# Altium schematic symbol library MyComponents_v2.5.SchLib: 259 symbols (part 1 of 3)
Pins are listed as number, name and electrical type; pins without a type are passive.

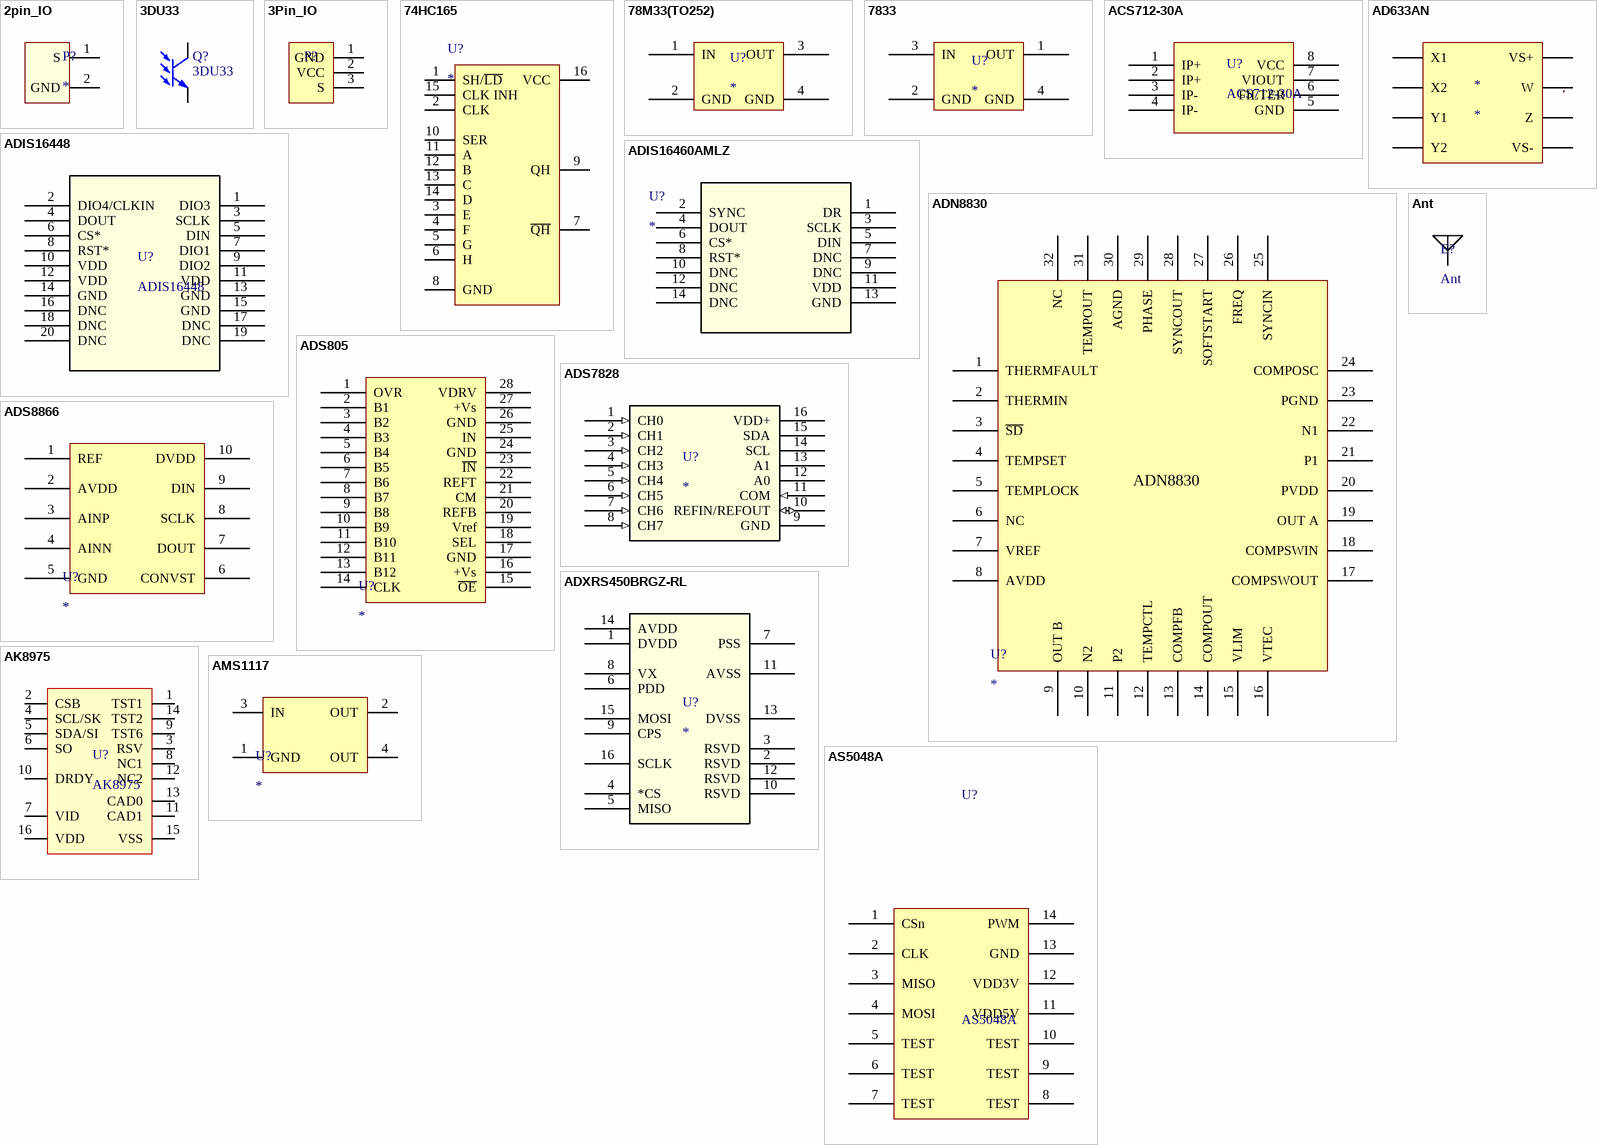
[diagram p0: symbols 2pin_IO to AS5048A]

## 2pin_IO
designator P?
footprint HY2.00MM 2X1_立式 (额定电流2A，额定电压250V)
footprint HY2.00MM 2X1 SMT
pins: 1 S, 2 GND

## 3DU33
designator Q?
光电三极管
footprint 3DU33
footprint LED-3mm
footprint 5mm_Receiver
pins: 1 Collector, 2 Emiter

## 3Pin_IO
designator P?  (value not drawn)
3pin input/output. V+S+G
footprint HY2.00MM 3x1立式 (额定电流2A)
footprint HY2.00MM 3x1 (额定电流2A)
footprint HY2.00MM 3X1 SMT
pins: 1 GND, 2 VCC, 3 S

## 74HC165
designator U?
8-BIT PARALLEL-LOAD SHIFT REGISTERS
pins: 1 SH/~{LD}, 2 CLK, 3 E, 4 F, 5 G, 6 H, 7 ~{QH}, 8 GND, 9 QH, 10 SER, 11 A, 12 B, 13 C, 14 D, 15 CLK INH, 16 VCC

## 78M33(TO252)
designator U?
pins: 1 IN, 2 GND, 3 OUT, 4 GND

## 7833
designator U?
pins: 1 OUT, 2 GND, 3 IN, 4 GND

## ACS712-30A
designator U?
footprint SOIC-8
pins: 1 IP+, 2 IP+, 3 IP-, 4 IP-, 5 GND, 6 FILTER, 7 VIOUT, 8 VCC

## AD633AN
designator *
pins: 1 X1, 2 X2, 3 Y1, 4 Y2, 5 VS-, 6 Z, 7 W, 8 VS+

## ADIS16448
designator U?
footprint Model Name (Footprint not found)
footprint ML-20
pins: 1 DIO3, 2 DIO4/CLKIN, 3 SCLK, 4 DOUT, 5 DIN, 6 CS*, 7 DIO1, 8 RST*, 9 DIO2, 10 VDD, 11 VDD, 12 VDD, 13 GND, 14 GND, 15 GND, 16 DNC, 17 DNC, 18 DNC, 19 DNC, 20 DNC

## ADIS16460AMLZ
designator U?
Imported; Value: Value; Type: Type; RefDes: RefDes
footprint ML-14-6
pins: 1 DR, 2 SYNC, 3 SCLK, 4 DOUT, 5 DIN, 6 CS*, 7 DNC, 8 RST*, 9 DNC, 10 DNC, 11 VDD, 12 DNC, 13 GND, 14 DNC

## ADN8830
designator U?
footprint QFN32_Thermal
pins: 1 THERMFAULT, 2 THERMIN, 3 ~{SD}, 4 TEMPSET, 5 TEMPLOCK, 6 NC, 7 VREF, 8 AVDD, 9 OUT B, 10 N2, 11 P2, 12 TEMPCTL, 13 COMPFB, 14 COMPOUT, 15 VLIM, 16 VTEC, 17 COMPSWOUT, 18 COMPSWIN, 19 OUT A, 20 PVDD, 21 P1, 22 N1, 23 PGND, 24 COMPOSC, 25 SYNCIN, 26 FREQ, 27 SOFTSTART, 28 SYNCOUT, 29 PHASE, 30 AGND, 31 TEMPOUT, 32 NC, 33 hidden to GND

## ADS805
designator U?
footprint ADS805
pins: 1 OVR, 2 B1, 3 B2, 4 B3, 5 B4, 6 B5, 7 B6, 8 B7, 9 B8, 10 B9, 11 B10, 12 B11, 13 B12, 14 CLK, 15 ~{OE}, 16 +Vs, 17 GND, 18 SEL, 19 Vref, 20 REFB, 21 CM, 22 REFT, 23 ~{IN}, 24 GND, 25 IN, 26 GND, 27 +Vs, 28 VDRV

## ADS7828
designator U?
Imported; Manufacturer: Texas Instruments; GENERIC_PART_NUMBER: ADS7828; INDUSTRY_STD_PKG_TYPE: TSSOP; FAMILY_NAME: PRECISION ADC (<=10MSPS); PIN_COUNT: 16; PACKAGE_DESIGNATOR: PW; Datasheet_URL: http://www.ti.com/lit/gpn/ADS7828; Value: Value; Type: Type; RefDes: RefDes
footprint TSSOP-16
pins: 1 CH0 (in), 2 CH1 (in), 3 CH2 (in), 4 CH3 (in), 5 CH4 (in), 6 CH5 (in), 7 CH6 (in), 8 CH7 (in), 9 GND (power), 10 REFIN/REFOUT (io), 11 COM (in), 12 A0, 13 A1, 14 SCL, 15 SDA, 16 VDD+ (power)

## ADS8866
designator U?
footprint DGS10_NOTHERMAL (TSSOP, 10-Leads, Body 3.00x3.00mm, Pitch 0.50mm, IPC Medium Density)
pins: 1 REF, 2 AVDD, 3 AINP, 4 AINN, 5 GND, 6 CONVST, 7 DOUT, 8 SCLK, 9 DIN, 10 DVDD

## ADXRS450BRGZ-RL
designator U?
Imported; Value: Value; Type: Type; RefDes: RefDes
footprint RG_16_1
pins: 1 DVDD, 2 RSVD, 3 RSVD, 4 *CS, 5 MISO, 6 PDD, 7 PSS, 8 VX, 9 CPS, 10 RSVD, 11 AVSS, 12 RSVD, 13 DVSS, 14 AVDD, 15 MOSI, 16 SCLK

## AK8975
designator U?
footprint QFN16 4x4
pins: 1 TST1, 2 CSB, 3 RSV, 4 SCL/SK, 5 SDA/SI, 6 SO, 7 VID, 8 NC1, 9 TST6, 10 DRDY, 11 CAD1, 12 NC2, 13 CAD0, 14 TST2, 15 VSS, 16 VDD

## AMS1117
designator U?
footprint SOT223_4 (SOT223, 4-Leads, Body 6.50x7.00mm (avg), Pitch 2.29mm, IPC Medium Density)
pins: 1 GND, 2 OUT, 3 IN, 4 OUT

## Ant
designator E?
天线
footprint 2.4GANTS9
pins: 1

## AS5048A
designator U?
footprint PW14
pins: 1 CSn, 2 CLK, 3 MISO, 4 MOSI, 5 TEST, 6 TEST, 7 TEST, 8 TEST, 9 TEST, 10 TEST, 11 VDD5V, 12 VDD3V, 13 GND, 14 PWM

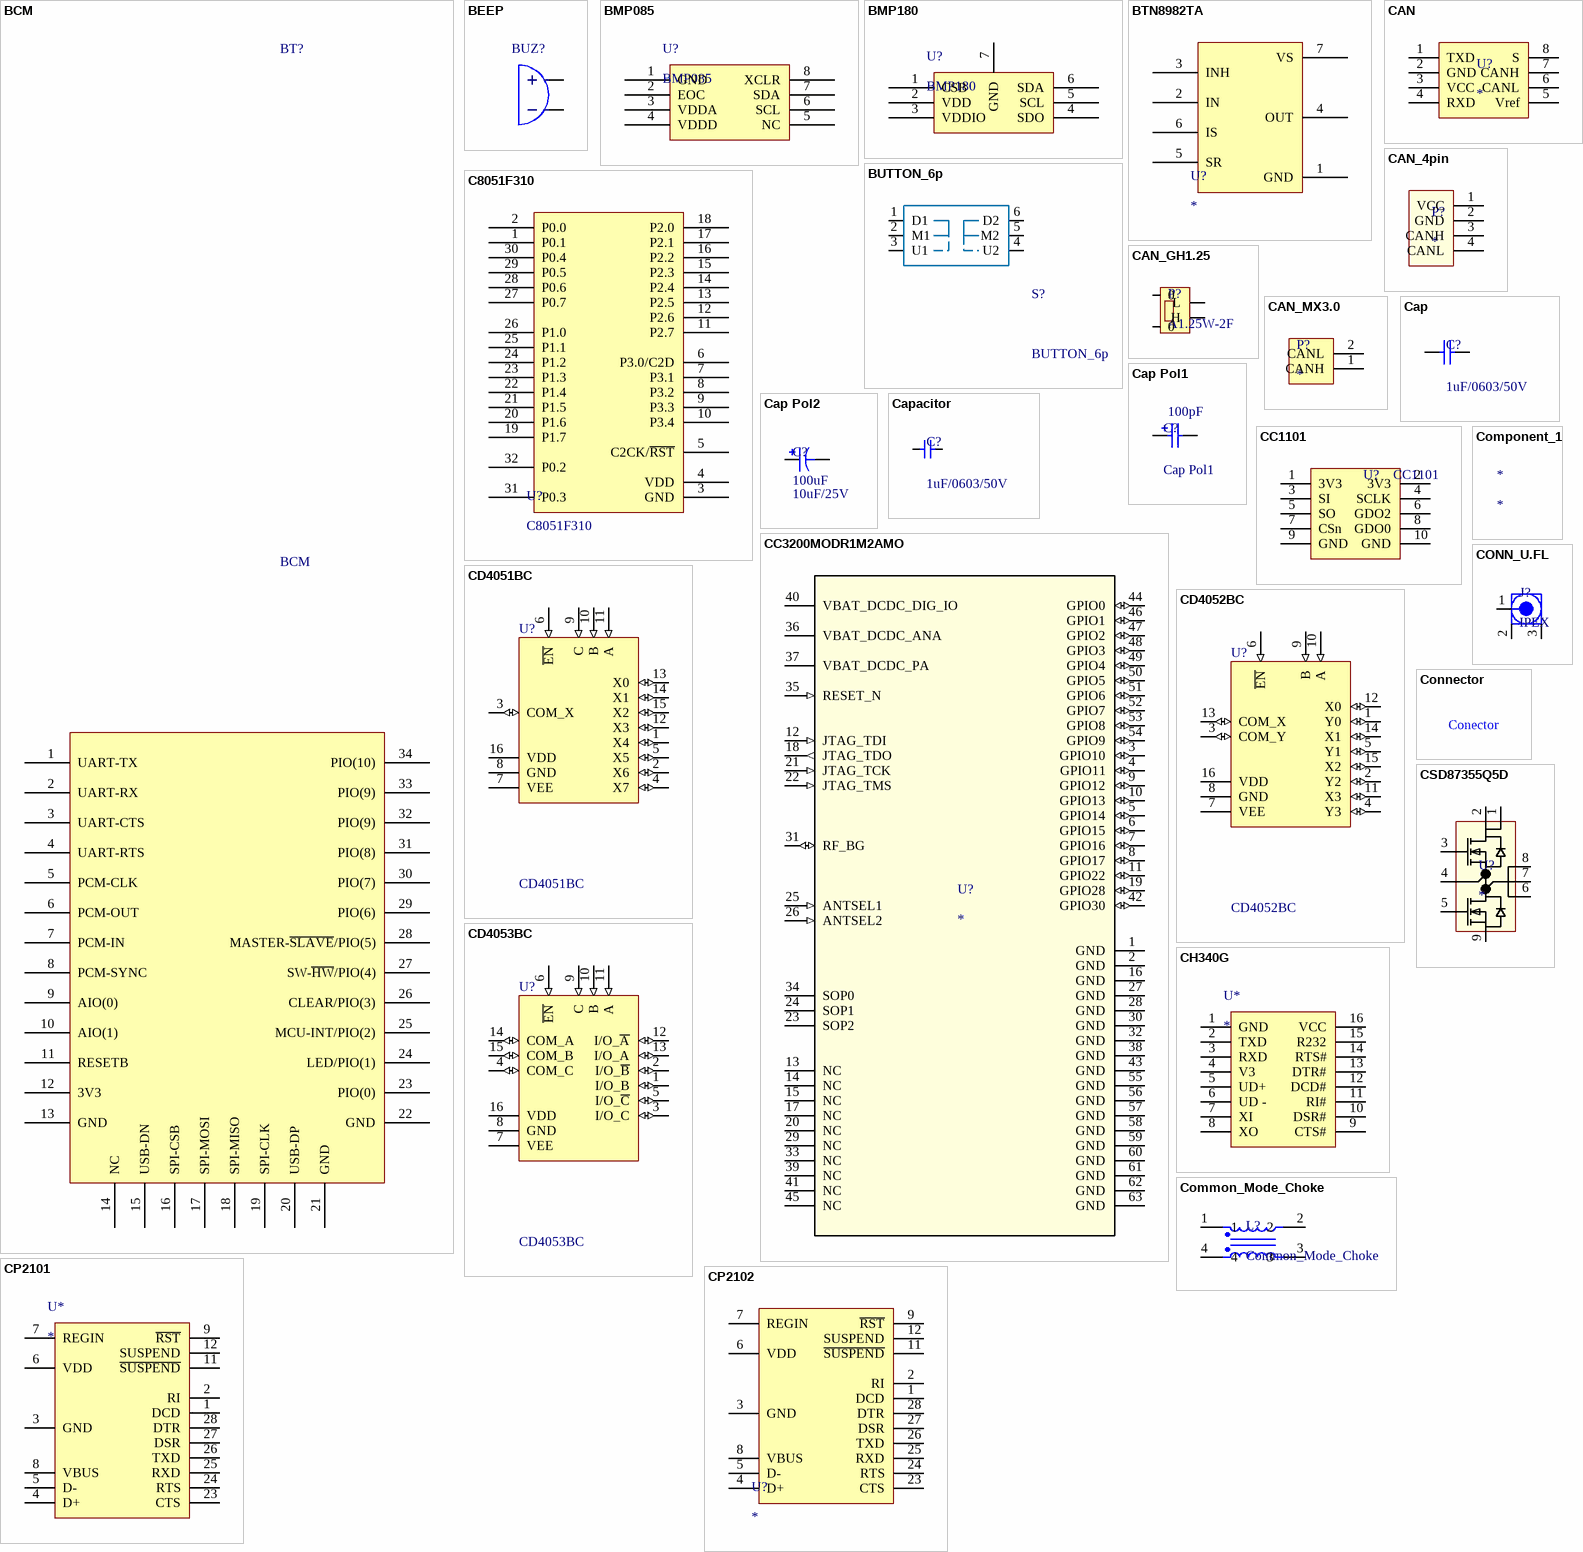
[diagram p1: symbols BCM to CSD87355Q5D]

## BCM
designator BT?
蓝牙2.0 主从模块
footprint Bluetooth_fix
pins: 1 UART-TX, 2 UART-RX, 3 UART-CTS, 4 UART-RTS, 5 PCM-CLK, 6 PCM-OUT, 7 PCM-IN, 8 PCM-SYNC, 9 AIO(0), 10 AIO(1), 11 RESETB, 12 3V3, 13 GND, 14 NC, 15 USB-DN, 16 SPI-CSB, 17 SPI-MOSI, 18 SPI-MISO, 19 SPI-CLK, 20 USB-DP, 21 GND, 22 GND, 23 PIO(0), 24 LED/PIO(1), 25 MCU-INT/PIO(2), 26 CLEAR/PIO(3), 27 SW-~{HW}/PIO(4), 28 MASTER-~{SLAVE}/PIO(5), 29 PIO(6), 30 PIO(7), 31 PIO(8), 32 PIO(9), 33 PIO(9), 34 PIO(10)

## BEEP
designator BUZ?, comment BUZZER  (value not drawn)
footprint BEEP-3.3V (Φ9X5.5mm  3.3V)
footprint BEEP-5V (Φ12X9.5mm  5V)
footprint MLT-8530
footprint MLT-5030 (MLT5020/MLT5025/MLT5030)
pins: 1, 2

## BMP085
designator U?
数字气压计
footprint BMP085
pins: 1 GND, 2 EOC, 3 VDDA, 4 VDDD, 5 NC, 6 SCL, 7 SDA, 8 XCLR

## BMP180
designator U?
数字气压计
footprint BMP180
pins: 1 CSB, 2 VDD, 3 VDDIO, 4 SDO, 5 SCL, 6 SDA, 7 GND

## BTN8982TA
designator U?
footprint TO263_7P
pins: 1 GND, 2 IN, 3 INH, 4 OUT, 5 SR, 6 IS, 7 VS, 8 OUT hidden

## BUTTON_6p
designator S?
footprint BTN8.5*8.5 (8.5MM*8.5MM)
pins: 1 D1, 2 M1, 3 U1, 4 U2, 5 M2, 6 D2

## C8051F310
designator U?
footprint LQFP_32 (LQFP, 32-Leads, Body 9.0x9.0mm (max), Pitch 0.80mm, IPC Medium Density)
pins: 1 P0.1, 2 P0.0, 3 GND, 4 VDD, 5 C2CK/~{RST}, 6 P3.0/C2D, 7 P3.1, 8 P3.2, 9 P3.3, 10 P3.4, 11 P2.7, 12 P2.6, 13 P2.5, 14 P2.4, 15 P2.3, 16 P2.2, 17 P2.1, 18 P2.0, 19 P1.7, 20 P1.6, 21 P1.5, 22 P1.4, 23 P1.3, 24 P1.2, 25 P1.1, 26 P1.0, 27 P0.7, 28 P0.6, 29 P0.5, 30 P0.4, 31 P0.3, 32 P0.2

## CAN
designator U?
footprint SOIC8 (SOIC, 8-Leads, Body 4.90x3.90mm, Pitch 1.27mm, IPC Medium Density)
footprint SOT-23-8
pins: 1 TXD, 2 GND, 3 VCC, 4 RXD, 5 Vref, 6 CANL, 7 CANH, 8 S

## CAN_4pin
designator P?
CAN 4pin，带5V电源，HY2.0-4A
footprint HY2.00MM 4X1立式
footprint HY2.00MM 4X1 SMT
footprint GH1.25-4P-卧贴
pins: 1 VCC, 2 GND, 3 CANH, 4 CANL

## CAN_GH1.25
designator P?, comment A1.25W-2F
footprint GH1.25-2p-卧贴
footprint GH1.25-2P-立贴
pins: 0, 0, 1 L, 2 H

## CAN_MX3.0
designator P?
footprint PCON2_3.81-2Z
footprint MX3.0MM 2X1AW
pins: 1 CANH, 2 CANL

## Cap
designator C?, comment 1uF/0603/50V
Capacitor; Value: 100pF; Published: 8-Jun-2000; LatestRevisionDate: 17-Jul-2002; LatestRevisionNote: Re-released for DXP Platform.; PackageReference: RAD-0.3; Publisher: Altium Limited; PackageDescription: Radial Cap, Thru-Hole; 2 Leads; 0.3 in Pin Spacing
simulation model CAP (Capacitor)
signal-integrity model Cap
footprint 0603C
footprint 1210C
footprint 0805c
footprint 1206C
footprint 0402C
pins: 1, 2

## Cap Pol1
designator C?  value 100pF
Polarized Capacitor (Radial); Published: 8-Jun-2000; LatestRevisionDate: 17-Jul-2002; LatestRevisionNote: Re-released for DXP Platform.; PackageReference: RB7.6-15; Publisher: Altium Limited; PackageDescription: Polarized Capacitor (Radial); 2 Leads
footprint RB7.6-15 (Footprint not found)
simulation model CAP (Capacitor)
signal-integrity model Cap Pol
pins: 1, 2
1 alternate drawing of the same symbol

## Cap Pol2
designator C?, comment 10uF/25V  value 100uF
Polarized Capacitor (Axial); Published: 8-Jun-2000; LatestRevisionDate: 17-Jul-2002; LatestRevisionNote: Re-released for DXP Platform.; PackageReference: POLAR0.8; Publisher: Altium Limited; PackageDescription: Polarized Capacitor; 2 Leads
simulation model CAP (Capacitor)
signal-integrity model Cap Pol
footprint RB-6.3mm (外径6.3mm 引脚间距2.5mm 孔径0.5mm 100u/25V)
footprint RB-5mm (外径5mm 引脚间距2mm 孔径0.5mm)
footprint RB-10mm (外径10mm 引脚间距5mm 孔径0.6mm)
footprint RB-10MM-W
footprint SMD-EC-F8 (铝电解电容)
footprint RB-8MM (外径8mm 引脚间距4mm 脚径0.6mm)
pins: 1, 2
1 alternate drawing of the same symbol

## Capacitor
designator C?, comment 1uF/0603/50V
Capacitor; Value: 100pF; Published: 8-Jun-2000; LatestRevisionDate: 17-Jul-2002; LatestRevisionNote: Re-released for DXP Platform.; PackageReference: RAD-0.3; Publisher: Altium Limited; PackageDescription: Radial Cap, Thru-Hole; 2 Leads; 0.3 in Pin Spacing
simulation model CAP (Capacitor)
signal-integrity model Cap
footprint 0603C
footprint 1210C
footprint 0402
footprint 0805c
footprint 1206C
pins: 1, 2

## CC1101
designator U?
footprint CC1101
pins: 1 3V3, 2 3V3, 3 SI, 4 SCLK, 5 SO, 6 GDO2, 7 CSn, 8 GDO0, 9 GND, 10 GND

## CC3200MODR1M2AMO
designator U?
Imported; PartNumber: CC3200MODR1M2AMOBR; Manufacturer: Texas Instruments; RefDes: RefDes; TYPE: TYPE; Value: Value
footprint MOB0063A
pins: 1 GND (power), 2 GND (power), 3 GPIO10 (io), 4 GPIO11 (io), 5 GPIO14 (io), 6 GPIO15 (io), 7 GPIO16 (io), 8 GPIO17 (io), 9 GPIO12 (io), 10 GPIO13 (io), 11 GPIO22 (io), 12 JTAG_TDI (in), 13 NC, 14 NC, 15 NC, 16 GND (power), 17 NC, 18 JTAG_TDO (out), 19 GPIO28 (io), 20 NC, 21 JTAG_TCK (in), 22 JTAG_TMS (in), 23 SOP2, 24 SOP1, 25 ANTSEL1 (in), 26 ANTSEL2 (in), 27 GND (power), 28 GND (power), 29 NC, 30 GND (power), 31 RF_BG (io), 32 GND (power), 33 NC, 34 SOP0, 35 RESET_N (in), 36 VBAT_DCDC_ANA (power), 37 VBAT_DCDC_PA (power), 38 GND (power), 39 NC, 40 VBAT_DCDC_DIG_IO (power), 41 NC, 42 GPIO30 (io), 43 GND (power), 44 GPIO0 (io), 45 NC, 46 GPIO1 (io), 47 GPIO2 (io), 48 GPIO3 (io), 49 GPIO4 (io), 50 GPIO5 (io), 51 GPIO6 (io), 52 GPIO7 (io), 53 GPIO8 (io), 54 GPIO9 (io), 55 GND (power), 56 GND (power), 57 GND (power), 58 GND (power), 59 GND (power), 60 GND (power), 61 GND (power), 62 GND (power), 63 GND (power)

## CD4051BC
designator U?
8-Channel Analog Multiplexer/Demultiplexer; Published: 15-Apr-2002; LatestRevisionDate: 06-Jun-2005; LatestRevisionNote: Stylized 3D Model Added.; DatasheetVersion: Oct-1989; PackageVersion: 2000; PackageReference: N16E; Publisher: Altium Limited; PackageDescription: DIP; 16 Leads; Row Spacing 7.62 mm; Pitch 2.54 mm; ComponentLink1Description: Manufacturer Link; ComponentLink1URL: http://www.national.com/; ComponentLink2Description: Datasheet; ComponentLink2URL: http://www.national.com/ds.cgi/CD/CD4051BC.pdf; ComponentLink3Description: URL Link1; ComponentLink3URL: http://www.national.com/pf/CD/CD4051BC.html
pins: 1 X4 (io), 2 X6 (io), 3 COM_X (io), 4 X7 (io), 5 X5 (io), 6 ~{EN} (in), 7 VEE (power), 8 GND (power), 9 C (in), 10 B (in), 11 A (in), 12 X3 (io), 13 X0 (io), 14 X1 (io), 15 X2 (io), 16 VDD (power)

## CD4052BC
designator U?
8-Channel Analog Multiplexer/Demultiplexer; Published: 15-Apr-2002; LatestRevisionDate: 06-Jun-2005; LatestRevisionNote: Stylized 3D Model Added.; DatasheetVersion: Oct-1989; PackageVersion: 2000; PackageReference: N16E; Publisher: Altium Limited; PackageDescription: DIP; 16 Leads; Row Spacing 7.62 mm; Pitch 2.54 mm; ComponentLink1Description: Manufacturer Link; ComponentLink1URL: http://www.national.com/; ComponentLink2Description: Datasheet; ComponentLink2URL: http://www.national.com/ds.cgi/CD/CD4051BC.pdf; ComponentLink3Description: URL Link1; ComponentLink3URL: http://www.national.com/pf/CD/CD4051BC.html
pins: 1 Y0 (io), 2 Y2 (io), 3 COM_Y (io), 4 Y3 (io), 5 Y1 (io), 6 ~{EN} (in), 7 VEE (power), 8 GND (power), 9 B (in), 10 A (in), 11 X3 (io), 12 X0 (io), 13 COM_X (io), 14 X1 (io), 15 X2 (io), 16 VDD (power)

## CD4053BC
designator U?
8-Channel Analog Multiplexer/Demultiplexer; Published: 15-Apr-2002; LatestRevisionDate: 06-Jun-2005; LatestRevisionNote: Stylized 3D Model Added.; DatasheetVersion: Oct-1989; PackageVersion: 2000; PackageReference: N16E; Publisher: Altium Limited; PackageDescription: DIP; 16 Leads; Row Spacing 7.62 mm; Pitch 2.54 mm; ComponentLink1Description: Manufacturer Link; ComponentLink1URL: http://www.national.com/; ComponentLink2Description: Datasheet; ComponentLink2URL: http://www.national.com/ds.cgi/CD/CD4051BC.pdf; ComponentLink3Description: URL Link1; ComponentLink3URL: http://www.national.com/pf/CD/CD4051BC.html
pins: 1 I/O_B (io), 2 I/O_~{B} (io), 3 I/O_C (io), 4 COM_C (io), 5 I/O_~{C} (io), 6 ~{EN} (in), 7 VEE (power), 8 GND (power), 9 C (in), 10 B (in), 11 A (in), 12 I/O_~{A} (io), 13 I/O_A (io), 14 COM_A (io), 15 COM_B (io), 16 VDD (power)

## CH340G
designator U*
USB-UART
footprint SOP16M
pins: 1 GND, 2 TXD, 3 RXD, 4 V3, 5 UD+, 6 UD -, 7 XI, 8 XO, 9 CTS#, 10 DSR#, 11 RI#, 12 DCD#, 13 DTR#, 14 RTS#, 15 R232, 16 VCC

## Common_Mode_Choke
designator L?
pins: 1, 2, 3, 4

## Component_1
designator *

## CONN_U.FL
designator J?, comment IPEX
同轴线缆接口
footprint IPEX
pins: 1, 2, 3

## Connector
designator ?  (value not drawn)
跳线帽
footprint SNT-100-BK-G
text: Conector

## CP2101
designator U*
USB-UART
footprint QFN50P500X500X90-28N(CP2101) (QFN, 28-Leads, Body 5.0x5.0mm (max), Pitch 0.50mm, IPC Medium Density)
pins: 1 DCD, 2 RI, 3 GND, 4 D+, 5 D-, 6 VDD, 7 REGIN, 8 VBUS, 9 ~{RST}, 11 ~{SUSPEND}, 12 SUSPEND, 23 CTS, 24 RTS, 25 RXD, 26 TXD, 27 DSR, 28 DTR

## CP2102
designator U?
footprint QFN50P500X500X90-28N(CP2101) (QFN, 28-Leads, Body 5.0x5.0mm (max), Pitch 0.50mm, IPC Medium Density)
pins: 1 DCD, 2 RI, 3 GND, 4 D+, 5 D-, 6 VDD, 7 REGIN, 8 VBUS, 9 ~{RST}, 11 ~{SUSPEND}, 12 SUSPEND, 23 CTS, 24 RTS, 25 RXD, 26 TXD, 27 DSR, 28 DTR, 29 PAD hidden to GND

## CSD87355Q5D
designator U?
Imported; PartNumber: CSD87355Q5D; Manufacturer: Texas Instruments; Value: 30V; VALUE_2: Value; RefDes: RefDes; TYPE: TYPE; Value: Value
footprint DQY0008A
pins: 1 VIN, 2 VIN, 3 TG, 4 TGR, 5 BG, 6 VSW, 7 VSW, 8 VSW, 9 PGND

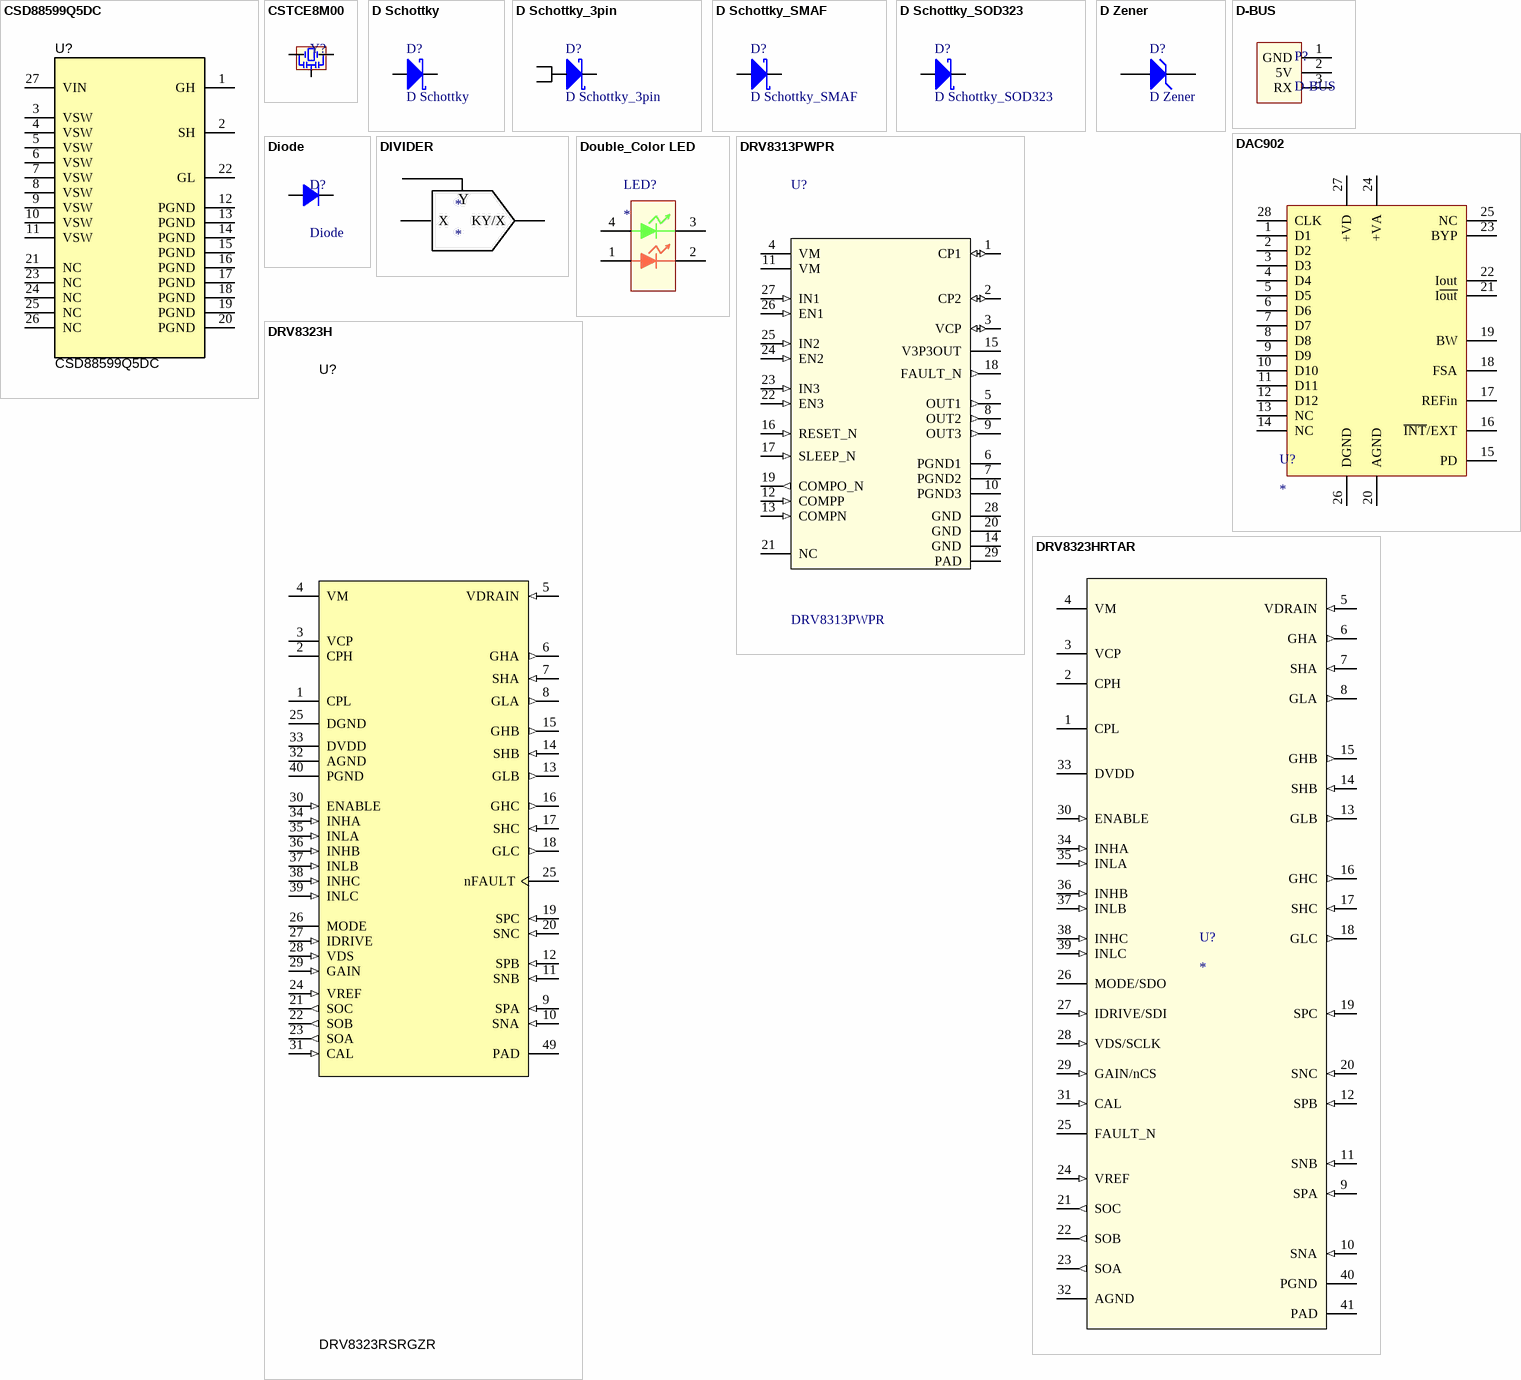
[diagram p2: symbols CSD88599Q5DC to DRV8323HRTAR]

## CSD88599Q5DC
designator U?
60 V Half-Bridge NexFE Power Block, DMM0022A (LSON-CLIP-27); Alternate PartNumber: CSD88599Q5DCT; Manufacturer: Texas Instruments; SymbolCreator: Altium; SizeArea_mm2: 30; SizeAreaWB_mm2: 56; SizeX_mm: 5; SizeY_mm: 6; SizeZ_mm: 1.05; CompType: IC; U/M: EA; SymbolVersion: 2016-08-25; PartNumber: CSD88599Q5DC; PackageReference: DMM0022A; PackageDescription: LSON-CLIP-27; MountType: SMT; ComponentLink1Description: Datasheet Link; ComponentLink1URL: https://sps06.itg.ti.com/sites/KMS/crossdivteams/altium/docs/ComponentDatasheets/CSD88599Q5DC.pdf; RoHS: Y; Publisher: Texas Instruments; LatestRevisionDate: 2016-12-06; Alternate Manufacturer: Texas Instruments
footprint DMM0022A
pins: 1 GH, 2 SH, 3 VSW, 4 VSW, 5 VSW, 6 VSW, 7 VSW, 8 VSW, 9 VSW, 10 VSW, 11 VSW, 12 PGND (power), 13 PGND (power), 14 PGND (power), 15 PGND (power), 16 PGND (power), 17 PGND (power), 18 PGND (power), 19 PGND (power), 20 PGND (power), 21 NC, 22 GL, 23 NC, 24 NC, 25 NC, 26 NC, 27 VIN (power)

## CSTCE8M00
designator Y?  (value not drawn)
Crystal Oscillator; Published: 8-Jun-2000; LatestRevisionDate: 17-Jul-2002; LatestRevisionNote: Re-released for DXP Platform.; PackageReference: R38; Publisher: Altium Limited; PackageDescription: Crystal, Thru-Hole; 2 Leads; Body 3.1 x 8.2 mm (Dia.xH)
simulation model XTAL (Spice Subcircuit)
footprint NX3215
pins: 1 OSC1, 2 OSC2, 3 GND

## D Schottky
designator D?
Schottky Diode; Published: 8-Jun-2000; LatestRevisionDate: 17-Jul-2002; LatestRevisionNote: Re-released for DXP Platform.; PackageReference: SMB; Publisher: Altium Limited; PackageDescription: DO-214-AA/SMB; 2 C-Bend Leads; Body 5.3 x 3.6 mm, inc. leads (LxW); Code_JEDEC: DO-214-AA
footprint SMA/DO-214AC (SS14/M7)
simulation model SKYDIODE (Diode)
signal-integrity model D Schottky
footprint SOD-323- (开关二极管2.60mmx1.20mm)
pins: 1, 2

## D Schottky_3pin
designator D?
Schottky Diode; Published: 8-Jun-2000; LatestRevisionDate: 17-Jul-2002; LatestRevisionNote: Re-released for DXP Platform.; PackageReference: SMB; Publisher: Altium Limited; PackageDescription: DO-214-AA/SMB; 2 C-Bend Leads; Body 5.3 x 3.6 mm, inc. leads (LxW); Code_JEDEC: DO-214-AA
simulation model SKYDIODE (Diode)
signal-integrity model D Schottky
footprint TO263AB
pins: 0 K, 1 A1, 2 A2

## D Schottky_SMAF
designator D?
Schottky Diode; Published: 8-Jun-2000; LatestRevisionDate: 17-Jul-2002; LatestRevisionNote: Re-released for DXP Platform.; PackageReference: SMB; Publisher: Altium Limited; PackageDescription: DO-214-AA/SMB; 2 C-Bend Leads; Body 5.3 x 3.6 mm, inc. leads (LxW); Code_JEDEC: DO-214-AA
footprint SMA/DO-214AC (SS14/M7)
simulation model SKYDIODE (Diode)
signal-integrity model D Schottky
footprint SOD-323- (开关二极管2.60mmx1.20mm)
footprint SMAF/DO-214AC (SS14/M7)
pins: 1, 2

## D Schottky_SOD323
designator D?
Schottky Diode; Published: 8-Jun-2000; LatestRevisionDate: 17-Jul-2002; LatestRevisionNote: Re-released for DXP Platform.; PackageReference: SMB; Publisher: Altium Limited; PackageDescription: DO-214-AA/SMB; 2 C-Bend Leads; Body 5.3 x 3.6 mm, inc. leads (LxW); Code_JEDEC: DO-214-AA
footprint SMA/DO-214AC (SS14/M7)
simulation model SKYDIODE (Diode)
signal-integrity model D Schottky
footprint SOD-323- (开关二极管2.60mmx1.20mm)
pins: 1, 2

## D Zener
designator D?
Zener Diode; Published: 8-Jun-2000; LatestRevisionDate: 17-Jul-2002; LatestRevisionNote: Re-released for DXP Platform.; PackageReference: DIODE-0.7; Publisher: Altium Limited; PackageDescription: Diode, Thru-Hole; 2 Leads; 0.7 in Pin Spacing
simulation model ZENER (Diode)
signal-integrity model D Zener
footprint 1206D (稳压管，1N4148)
footprint SMB/DO-214AA
footprint SOD-323 (SODFL, 2-Leads, Body 1.30x2.55mm, IPC Medium Density)
footprint SOD-323- (开关二极管2.60mmx1.20mm)
pins: 1 A, 2 K

## D-BUS
designator P?
footprint HY2.00MM 3x1 (额定电流2A)
footprint HY2.00MM 3x1立式 (额定电流2A)
pins: 1 GND, 2 5V, 3 RX

## DAC902
designator U?
footprint SO28_N (SOIC, 28-Leads, Body 17.9x7.5mm, Pitch 1.27mm, IPC Medium Density)
pins: 1 D1, 2 D2, 3 D3, 4 D4, 5 D5, 6 D6, 7 D7, 8 D8, 9 D9, 10 D10, 11 D11, 12 D12, 13 NC, 14 NC, 15 PD, 16 ~{INT}/EXT, 17 REFin, 18 FSA, 19 BW, 20 AGND, 21 I~{out}, 22 Iout, 23 BYP, 24 +VA, 25 NC, 26 DGND, 27 +VD, 28 CLK

## Diode
designator D?
Default Diode; Published: 8-Jun-2000; LatestRevisionDate: 17-Jul-2002; LatestRevisionNote: Re-released for DXP Platform.; PackageVersion: Sep-1996; PackageReference: SMC; Publisher: Altium Limited; PackageDescription: DO-214-AB/SMC; 2 C-Bend Leads; Body 7.9 x 5.9 mm, inc. leads (LxW); Code_JEDEC: DO-214-AB
simulation model DIODE (Diode)
signal-integrity model Diode
footprint 0805D
footprint SMA_DIODE (Molded Diode, 2-Leads, Body 4.30x2.60mm, IPC Medium Density)
footprint SOD-323- (开关二极管2.60mmx1.20mm)
pins: 1 A, 2 K

## DIVIDER
designator *
pins: 4 X, 5 Y, 6 KY/X

## Double_Color LED
designator LED?
footprint 0805LEDX2 (double_color)
footprint 0603LEDX2
pins: 1, 2, 3, 4

## DRV8313PWPR
designator U?
Imported; Manufacturer: Texas Instruments; PartNumber: DRV8313PWPR; RefDes: RefDes; TYPE: TYPE; Value: Value
footprint PWP0028F_L_drv8313
pins: 1 CP1 (io), 2 CP2 (io), 3 VCP (io), 4 VM (power), 5 OUT1 (out), 6 PGND1 (power), 7 PGND2 (power), 8 OUT2 (out), 9 OUT3 (out), 10 PGND3 (power), 11 VM (power), 12 COMPP (in), 13 COMPN (in), 14 GND (power), 15 V3P3OUT (power), 16 RESET_N (in), 17 SLEEP_N (in), 18 FAULT_N (out), 19 COMPO_N (out), 20 GND (power), 21 NC, 22 EN3 (in), 23 IN3 (in), 24 EN2 (in), 25 IN2 (in), 26 EN1 (in), 27 IN1 (in), 28 GND (power), 29 PAD (power)

## DRV8323H
designator U?, comment DRV8323RSRGZR
60-V Three-Phase Smart Gate Driver, RGZ0048B; Alternate PartNumber: DRV8323RSRGZT; Manufacturer: Texas Instruments; SymbolCreator: Altium; CompType: IC; U/M: EA; SymbolVersion: 2016-03-15; PartNumber: DRV8323RSRGZR; PackageReference: RGZ0048B; MountType: SMT; ComponentLink1Description: Datasheet Link; ComponentLink1URL: https://sps06.itg.ti.com/sites/KMS/crossdivteams/altium/docs/ComponentDatasheets/DRV832x_031016.pdf; RoHS: Y; Publisher: Texas Instruments; LatestRevisionDate: 2016-03-21; Alternate Manufacturer: Texas Instruments
footprint RGZ0048B
footprint RGZ0048B_NV
pins: 1 CPL, 2 CPH, 3 VCP (power), 4 VM (power), 5 VDRAIN (in), 6 GHA (out), 7 SHA (in), 8 GLA (out), 9 SPA (in), 10 SNA (in), 11 SNB (in), 12 SPB (in), 13 GLB (out), 14 SHB (in), 15 GHB (out), 16 GHC (out), 17 SHC (in), 18 GLC (out), 19 SPC (in), 20 SNC (in), 21 SOC (out), 22 SOB (out), 23 SOA (out), 24 VREF (in), 25 DGND (power), 25 nFAULT (oc), 26 MODE, 27 IDRIVE (in), 28 VDS (in), 29 GAIN (in), 30 ENABLE (in), 31 CAL (in), 32 AGND (power), 33 DVDD (power), 34 INHA (in), 35 INLA (in), 36 INHB (in), 37 INLB (in), 38 INHC (in), 39 INLC (in), 40 PGND (power), 49 PAD (power)

## DRV8323HRTAR
designator U?
Imported; Manufacturer: Texas Instruments; PartNumber: DRV8323HRTAR; RefDes: RefDes; TYPE: TYPE; Value: Value
footprint RTA0040B
pins: 1 CPL, 2 CPH, 3 VCP (power), 4 VM (power), 5 VDRAIN (in), 6 GHA (out), 7 SHA (in), 8 GLA (out), 9 SPA (in), 10 SNA (in), 11 SNB (in), 12 SPB (in), 13 GLB (out), 14 SHB (in), 15 GHB (out), 16 GHC (out), 17 SHC (in), 18 GLC (out), 19 SPC (in), 20 SNC (in), 21 SOC (out), 22 SOB (out), 23 SOA (out), 24 VREF (in), 25 FAULT_N (oc), 26 MODE/SDO, 27 IDRIVE/SDI (in), 28 VDS/SCLK (in), 29 GAIN/nCS (in), 30 ENABLE (in), 31 CAL (in), 32 AGND (power), 33 DVDD (power), 34 INHA (in), 35 INLA (in), 36 INHB (in), 37 INLB (in), 38 INHC (in), 39 INLC (in), 40 PGND (power), 41 PAD (power)

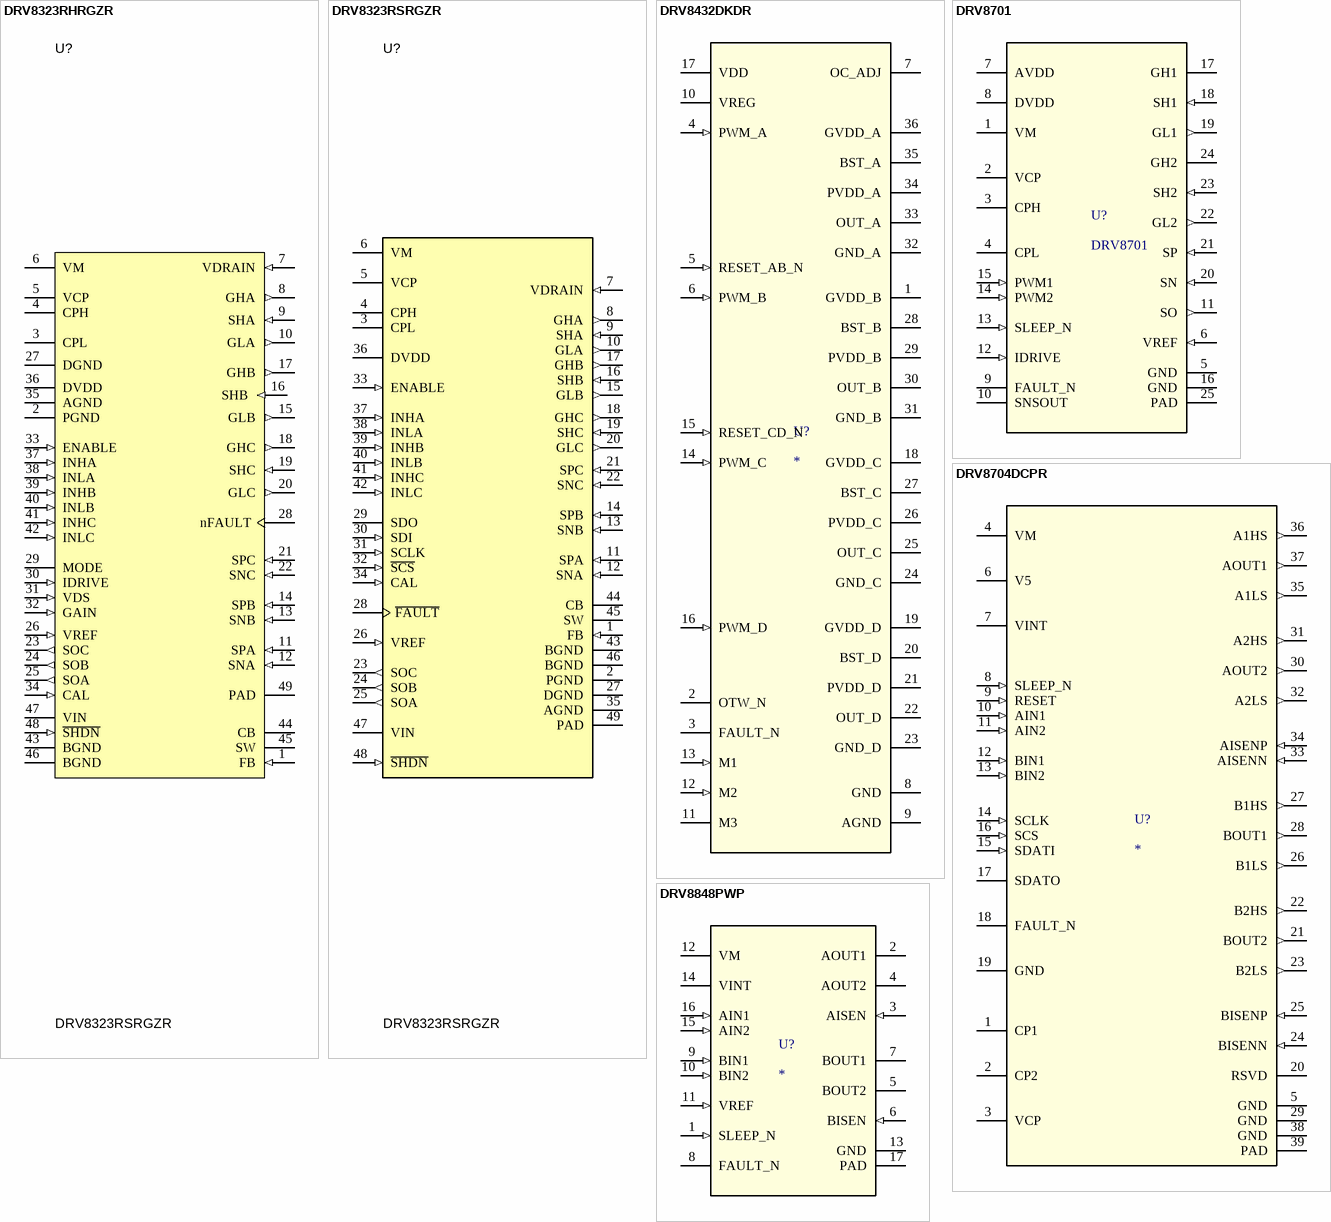
[diagram p3: symbols DRV8323RHRGZR to DRV8848PWP]

## DRV8323RHRGZR
designator U?, comment DRV8323RSRGZR
60-V Three-Phase Smart Gate Driver, RGZ0048B; Alternate PartNumber: DRV8323RSRGZT; Manufacturer: Texas Instruments; SymbolCreator: Altium; CompType: IC; U/M: EA; SymbolVersion: 2016-03-15; PartNumber: DRV8323RSRGZR; PackageReference: RGZ0048B; MountType: SMT; ComponentLink1Description: Datasheet Link; ComponentLink1URL: https://sps06.itg.ti.com/sites/KMS/crossdivteams/altium/docs/ComponentDatasheets/DRV832x_031016.pdf; RoHS: Y; Publisher: Texas Instruments; LatestRevisionDate: 2016-03-21; Alternate Manufacturer: Texas Instruments
footprint RGZ0048B
footprint RGZ0048B_NV
pins: 1 FB (in), 2 PGND (power), 3 CPL, 4 CPH, 5 VCP (power), 6 VM (power), 7 VDRAIN (in), 8 GHA (out), 9 SHA (in), 10 GLA (out), 11 SPA (in), 12 SNA (in), 13 SNB (in), 14 SPB (in), 15 GLB (out), 16 SHB (in), 17 GHB (out), 18 GHC (out), 19 SHC (in), 20 GLC (out), 21 SPC (in), 22 SNC (in), 23 SOC (out), 24 SOB (out), 25 SOA (out), 26 VREF (in), 27 DGND (power), 28 nFAULT (oc), 29 MODE, 30 IDRIVE (in), 31 VDS (in), 32 GAIN (in), 33 ENABLE (in), 34 CAL (in), 35 AGND (power), 36 DVDD (power), 37 INHA (in), 38 INLA (in), 39 INHB (in), 40 INLB (in), 41 INHC (in), 42 INLC (in), 43 BGND (power), 44 CB (power), 45 SW (power), 46 BGND (power), 47 VIN (power), 48 ~{SHDN} (in), 49 PAD (power)

## DRV8323RSRGZR
designator U?
60-V Three-Phase Smart Gate Driver, RGZ0048B; Alternate PartNumber: DRV8323RSRGZT; Manufacturer: Texas Instruments; SymbolCreator: Altium; CompType: IC; U/M: EA; SymbolVersion: 2016-03-15; PartNumber: DRV8323RSRGZR; PackageReference: RGZ0048B; MountType: SMT; ComponentLink1Description: Datasheet Link; ComponentLink1URL: https://sps06.itg.ti.com/sites/KMS/crossdivteams/altium/docs/ComponentDatasheets/DRV832x_031016.pdf; RoHS: Y; Publisher: Texas Instruments; LatestRevisionDate: 2016-03-21; Alternate Manufacturer: Texas Instruments
footprint RGZ0048B
footprint RGZ0048B_NV
pins: 1 FB (in), 2 PGND (power), 3 CPL, 4 CPH, 5 VCP (power), 6 VM (power), 7 VDRAIN (in), 8 GHA (out), 9 SHA (in), 10 GLA (out), 11 SPA (in), 12 SNA (in), 13 SNB (in), 14 SPB (in), 15 GLB (out), 16 SHB (in), 17 GHB (out), 18 GHC (out), 19 SHC (in), 20 GLC (out), 21 SPC (in), 22 SNC (in), 23 SOC (out), 24 SOB (out), 25 SOA (out), 26 VREF (in), 27 DGND (power), 28 ~{FAULT} (oc), 29 SDO, 30 SDI (in), 31 SCLK (in), 32 ~{SCS} (in), 33 ENABLE (in), 34 CAL (in), 35 AGND (power), 36 DVDD (power), 37 INHA (in), 38 INLA (in), 39 INHB (in), 40 INLB (in), 41 INHC (in), 42 INLC (in), 43 BGND (power), 44 CB (power), 45 SW (power), 46 BGND (power), 47 VIN (power), 48 ~{SHDN} (in), 49 PAD (power)

## DRV8432DKDR
designator U?
Imported; PartNumber: DRV8432DKDR; Alternate_PartNumber: DRV8432DKD; Manufacturer: Texas Instruments; CompType: IC; PIN_COUNT: 36; Application_BuildNumber: *; PackageReference: DKD0036A; MountType: SMT; RoHS: Y; RefDes: RefDes; TYPE: TYPE; Value: Value
footprint DKD0036A
pins: 1 GVDD_B (power), 2 OTW_N (oc), 3 FAULT_N (oc), 4 PWM_A (in), 5 RESET_AB_N (in), 6 PWM_B (in), 7 OC_ADJ, 8 GND (power), 9 AGND (power), 10 VREG (power), 11 M3 (power), 12 M2 (in), 13 M1 (in), 14 PWM_C (in), 15 RESET_CD_N (in), 16 PWM_D (in), 17 VDD (power), 18 GVDD_C (power), 19 GVDD_D (power), 20 BST_D (power), 21 PVDD_D (power), 22 OUT_D (hiz), 23 GND_D (power), 24 GND_C (power), 25 OUT_C (hiz), 26 PVDD_C (power), 27 BST_C (power), 28 BST_B (power), 29 PVDD_B (power), 30 OUT_B (hiz), 31 GND_B (power), 32 GND_A (power), 33 OUT_A (hiz), 34 PVDD_A (power), 35 BST_A (power), 36 GVDD_A (power)

## DRV8701
designator U?
全桥驱动
footprint RGE0024F (4x4mm 无引脚)
pins: 1 VM (power), 2 VCP (power), 3 CPH, 4 CPL, 5 GND (power), 6 VREF (in), 7 AVDD (power), 8 DVDD (power), 9 FAULT_N (oc), 10 SNSOUT (oc), 11 SO (out), 12 IDRIVE (in), 13 SLEEP_N (in), 14 PWM2 (in), 15 PWM1 (in), 16 GND (power), 17 GH1 (power), 18 SH1 (in), 19 GL1 (out), 20 SN (in), 21 SP (in), 22 GL2 (out), 23 SH2 (in), 24 GH2 (power), 25 PAD (power)

## DRV8704DCPR
designator U?
双H桥驱动; PartNumber: DRV8704DCPR; Alternate_PartNumber: DRV8704DCP; Manufacturer: Texas Instruments; CompType: IC; PIN_COUNT: 39; Application_BuildNumber: *; PackageReference: DCP0038A; MountType: SMT; RoHS: Y; RefDes: RefDes; TYPE: TYPE; Value: Value
footprint DCP0038A_N
pins: 1 CP1, 2 CP2, 3 VCP, 4 VM (power), 5 GND (power), 6 V5 (power), 7 VINT (power), 8 SLEEP_N (in), 9 RESET (in), 10 AIN1 (in), 11 AIN2 (in), 12 BIN1 (in), 13 BIN2 (in), 14 SCLK (in), 15 SDATI (in), 16 SCS (in), 17 SDATO (oc), 18 FAULT_N (oc), 19 GND (power), 20 RSVD, 21 BOUT2 (out), 22 B2HS (out), 23 B2LS (out), 24 BISENN (in), 25 BISENP (in), 26 B1LS (out), 27 B1HS (out), 28 BOUT1 (out), 29 GND (power), 30 AOUT2 (out), 31 A2HS (out), 32 A2LS (out), 33 AISENN (in), 34 AISENP (in), 35 A1LS (out), 36 A1HS (out), 37 AOUT1 (out), 38 GND (power), 39 PAD (power)

## DRV8848PWP
designator U?
Imported; PartNumber: DRV8848PWPR; Alternate_PartNumber: DRV8848PWP; Manufacturer: Texas Instruments; CompType: IC; PIN_COUNT: 17; PackageReference: PWP0016C; MountType: SMT; RoHS: Y; RefDes: RefDes; TYPE: TYPE; Value: Value
footprint PWP0016C_N
pins: 1 SLEEP_N (in), 2 AOUT1 (power), 3 AISEN (in), 4 AOUT2 (power), 5 BOUT2 (power), 6 BISEN (in), 7 BOUT1 (power), 8 FAULT_N (oc), 9 BIN1 (in), 10 BIN2 (in), 11 VREF (in), 12 VM (power), 13 GND (power), 14 VINT (power), 15 AIN2 (in), 16 AIN1 (in), 17 PAD (power)

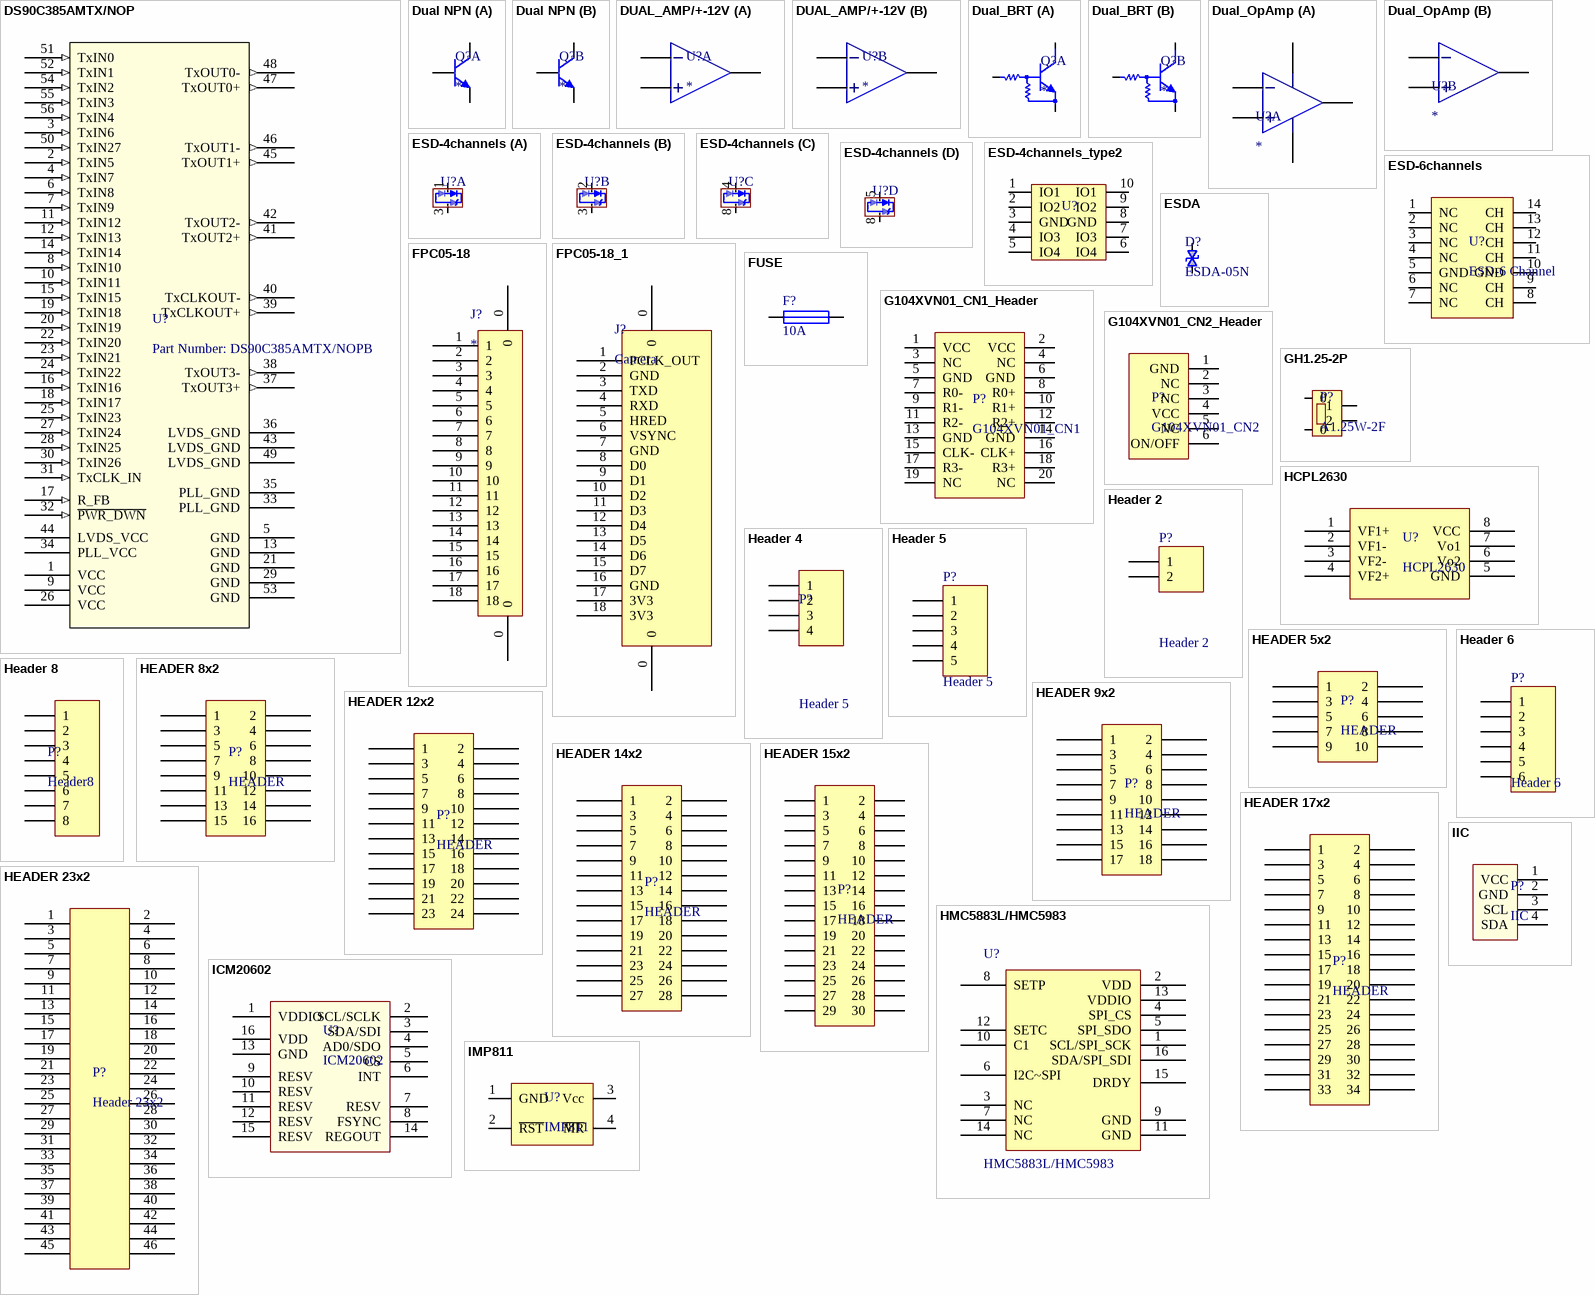
[diagram p4: symbols DS90C385AMTX/NOP to IMP811]

## DS90C385AMTX/NOP
designator U?, comment Part Number: DS90C385AMTX/NOPB
No Description Available; Vendor: Texas Instruments; Built_By: EMA_UL_Team; Manufacturer_Part_Number: DS90C385AMTX/NOPB; Copyright: Copyright (C) 2018 Accelerated Designs. All rights reserved; RefDes: RefDes; Type: DEV; Value: Value
footprint MTD56
pins: 1 VCC (power), 2 TxIN5 (in), 3 TxIN6 (in), 4 TxIN7 (in), 5 GND (power), 6 TxIN8 (in), 7 TxIN9 (in), 8 TxIN10 (in), 9 VCC (power), 10 TxIN11 (in), 11 TxIN12 (in), 12 TxIN13 (in), 13 GND (power), 14 TxIN14 (in), 15 TxIN15 (in), 16 TxIN16 (in), 17 R_FB (in), 18 TxIN17 (in), 19 TxIN18 (in), 20 TxIN19 (in), 21 GND (power), 22 TxIN20 (in), 23 TxIN21 (in), 24 TxIN22 (in), 25 TxIN23 (in), 26 VCC (power), 27 TxIN24 (in), 28 TxIN25 (in), 29 GND (power), 30 TxIN26 (in), 31 TxCLK_IN (in), 32 ~{PWR_DWN} (in), 33 PLL_GND (power), 34 PLL_VCC (power), 35 PLL_GND (power), 36 LVDS_GND (power), 37 TxOUT3+ (out), 38 TxOUT3- (out), 39 TxCLKOUT+ (out), 40 TxCLKOUT- (out), 41 TxOUT2+ (out), 42 TxOUT2- (out), 43 LVDS_GND (power), 44 LVDS_VCC (power), 45 TxOUT1+ (out), 46 TxOUT1- (out), 47 TxOUT0+ (out), 48 TxOUT0- (out), 49 LVDS_GND (power), 50 TxIN27 (in), 51 TxIN0 (in), 52 TxIN1 (in), 53 GND (power), 54 TxIN2 (in), 55 TxIN3 (in), 56 TxIN4 (in)

## Dual NPN
designator Q?
Dual BJT  NPN
part A pins: 1 E, 2 B, 6 C
part B pins: 3 C, 4 E, 5 B

## DUAL_AMP/+-12V
designator U?
part A pins: 1 OUT, 2 IN-, 3 IN+, 4 V- hidden to -12V, 8 V+ hidden to +12V
part B pins: 5 IN+, 6 IN-, 7 OUT

## Dual_BRT
designator Q?
Dual Bias Resistor Transistors
part A pins: 1 E1, 2 B1, 6 C1
part B pins: 3 C2, 4 E2, 5 B2

## Dual_OpAmp
designator U?
footprint D8_NoThermal (SOIC, 8-Leads, Body 4.90x3.90mm, Pitch 1.27mm, IPC Medium Density)
footprint DGK8_NOTHERMAL (TSOP, 8-Leads, Body 3.00x3.00mm, Pitch 0.65mm, IPC Medium Density)
part A pins: 1 OUT, 2 IN-, 3 IN+, 4 V-, 8 V+
part B pins: 5 IN+, 6 IN-, 7 OUT

## ESD-4channels
designator U?  (value not drawn)
Imported; PartNumber: TPD4E05U06DQAR; Manufacturer: Texas Instruments; CompType: IC; PIN_COUNT: 10; Application_BuildNumber: *; PackageReference: DQA0010A; MountType: SMT; RoHS: Y; RefDes: RefDes; TYPE: TYPE; Value: Value
footprint DQA0010A
part A pins: 1 D1+, 3 GND, 10 NC
part B pins: 2 D1+, 3 GND, 9 NC
part C pins: 4 D1+, 7 NC, 8 GND
part D pins: 5 D1+, 6 NC, 8 GND

## ESD-4channels_type2
designator U?  (value not drawn)
Imported; PartNumber: TPD4E05U06DQAR; Manufacturer: Texas Instruments; CompType: IC; PIN_COUNT: 10; Application_BuildNumber: *; PackageReference: DQA0010A; MountType: SMT; RoHS: Y; RefDes: RefDes; TYPE: TYPE; Value: Value
footprint DQA0010A
pins: 1 IO1, 2 IO2, 3 GND, 4 IO3, 5 IO4, 6 IO4, 7 IO3, 8 GND, 9 IO2, 10 IO1

## ESD-6channels
designator U?, comment ESD-6 Channel
footprint uDFN14
pins: 1 NC, 2 NC, 3 NC, 4 NC, 5 GND, 6 NC, 7 NC, 8 CH, 9 CH, 10 GND, 11 CH, 12 CH, 13 CH, 14 CH

## ESDA
designator D?, comment ESDA-05N
footprint 0402ESDA
footprint 0603ESDA (Chip Resistor, 2-Leads, Body 1.6x0.8mm, IPC Medium Density)
pins: 1 V, 2 G

## FPC05-18
designator J?
footprint FPC 0.5mm 18PIN (0.5mmFPC插座 18pin)
pins: 0, 0, 1, 2, 3, 4, 5, 6, 7, 8, 9, 10, 11, 12, 13, 14, 15, 16, 17, 18

## FPC05-18_1
designator J?, comment Camera
footprint FPC 0.5mm 18PIN (0.5mmFPC插座 18pin)
pins: 0, 0, 1 PCLK_OUT, 2 GND, 3 TXD, 4 RXD, 5 HRED, 6 VSYNC, 7 GND, 8 D0, 9 D1, 10 D2, 11 D3, 12 D4, 13 D5, 14 D6, 15 D7, 16 GND, 17 3V3, 18 3V3

## FUSE
designator F?, comment 10A
footprint FUSE_L
footprint 0805
footprint 1206
pins: 1, 2

## G104XVN01_CN1_Header
designator P?, comment G104XVN01_CN1
footprint HEADER 10x2_2.0 (2.00mm排针)
pins: 1 VCC, 2 VCC, 3 NC, 4 NC, 5 GND, 6 GND, 7 R0-, 8 R0+, 9 R1-, 10 R1+, 11 R2-, 12 R2+, 13 GND, 14 GND, 15 CLK-, 16 CLK+, 17 R3-, 18 R3+, 19 NC, 20 NC

## G104XVN01_CN2_Header
designator P?, comment G104XVN01_CN2
footprint PH2.0 6p_via
pins: 1 GND, 2 NC, 3 NC, 4 VCC, 5 NC, 6 ON/OFF

## GH1.25-2P
designator P?, comment A1.25W-2F
footprint GH1.25_立式
pins: 0, 0, 1, 2

## HCPL2630
designator U?
双通道高速光耦
footprint SOP-8
pins: 1 VF1+, 2 VF1-, 3 VF2-, 4 VF2+, 5 GND, 6 Vo2, 7 Vo1, 8 VCC

## Header 2
designator P?
Header, 2-Pin; LatestRevisionDate: 17-Jul-2002; LatestRevisionNote: Re-released for DXP Platform.; Publisher: Altium Limited
signal-integrity model Connector
footprint KF2510-2A
pins: 1, 2

## Header 4
designator P?, comment Header 5
Header, 4-Pin; LatestRevisionDate: 17-Jul-2002; LatestRevisionNote: Re-released for DXP Platform.; Publisher: Altium Limited
signal-integrity model Connector
footprint HEADER 4x1 (2.54mm 排针)
footprint GH1.25-4P-卧贴
pins: 1, 2, 3, 4

## Header 5
designator P?
Header, 5-Pin; LatestRevisionDate: 17-Jul-2002; LatestRevisionNote: Re-released for DXP Platform.; Publisher: Altium Limited
signal-integrity model Connector
footprint HEADER1X5 (Connector; Header; 5 Position)
pins: 1, 2, 3, 4, 5

## HEADER 5x2
designator P?, comment HEADER
2x5 CONN
pins: 1, 2, 3, 4, 5, 6, 7, 8, 9, 10

## Header 6
designator P?
Header, 5-Pin; LatestRevisionDate: 17-Jul-2002; LatestRevisionNote: Re-released for DXP Platform.; Publisher: Altium Limited
signal-integrity model Connector
footprint HEADER 6x1 _ 1.0mm (1.0mm 排母)
pins: 1, 2, 3, 4, 5, 6

## Header 8
designator P?, comment Header8
footprint HEADER 8x1 (2.54mm排针)
pins: 1, 2, 3, 4, 5, 6, 7, 8

## HEADER 8x2
designator P?, comment HEADER
8x2 CONN
footprint HEADER 8x2 (2.54mm排针)
pins: 1, 2, 3, 4, 5, 6, 7, 8, 9, 10, 11, 12, 13, 14, 15, 16

## HEADER 9x2
designator P?, comment HEADER
9x2 CONN
pins: 1, 2, 3, 4, 5, 6, 7, 8, 9, 10, 11, 12, 13, 14, 15, 16, 17, 18

## HEADER 12x2
designator P?, comment HEADER
12x2 CONN
footprint HEADER 12x2 (2.54mm排针)
pins: 1, 2, 3, 4, 5, 6, 7, 8, 9, 10, 11, 12, 13, 14, 15, 16, 17, 18, 19, 20, 21, 22, 23, 24

## HEADER 14x2
designator P?, comment HEADER
14x2 CONN
footprint HEADER 14x2 (2.54mm排针)
pins: 1, 2, 3, 4, 5, 6, 7, 8, 9, 10, 11, 12, 13, 14, 15, 16, 17, 18, 19, 20, 21, 22, 23, 24, 25, 26, 27, 28

## HEADER 15x2
designator P?, comment HEADER
15X2 header
footprint HEADER 15x2 SMT 1.27MM (2.54mm排针)
pins: 1, 2, 3, 4, 5, 6, 7, 8, 9, 10, 11, 12, 13, 14, 15, 16, 17, 18, 19, 20, 21, 22, 23, 24, 25, 26, 27, 28, 29, 30

## HEADER 17x2
designator P?, comment HEADER
17x2 CONN
pins: 1, 2, 3, 4, 5, 6, 7, 8, 9, 10, 11, 12, 13, 14, 15, 16, 17, 18, 19, 20, 21, 22, 23, 24, 25, 26, 27, 28, 29, 30, 31, 32, 33, 34

## HEADER 23x2
designator P?, comment Header 23x2
footprint HEADER 23x2 (2.54mm排针)
pins: 1, 2, 3, 4, 5, 6, 7, 8, 9, 10, 11, 12, 13, 14, 15, 16, 17, 18, 19, 20, 21, 22, 23, 24, 25, 26, 27, 28, 29, 30, 31, 32, 33, 34, 35, 36, 37, 38, 39, 40, 41, 42, 43, 44, 45, 46

## HMC5883L/HMC5983
designator U?
三轴磁力计
footprint LCCS50P300X300X90-16M (LCC, 16-Pins, Body 3.0x3.0mm (max), Pitch 0.50mm, IPC Low Density)
pins: 1 SCL/SPI_SCK, 2 VDD, 3 NC, 4 SPI_CS "Chip Select line for SPI (active low). Tie to VDDIO for I²C Interface", 5 SPI_SDO, 6 I2C~SPI "I²C / SPI selection pin. Connect to VDD for I²C (Also connect SPI_CS to VDDIO).  Connect to GND for SPI.", 7 NC, 8 SETP "Set/Reset Strap Positive – S/R Capacitor (C2) Connection", 9 GND "Start of Conversion (leading edge active) Connect to Ground when this  function/pad is not used in application.", 10 C1, 11 GND, 12 SETC, 13 VDDIO, 14 NC, 15 DRDY, 16 SDA/SPI_SDI

## ICM20602
designator U?
footprint LGA-16
pins: 1 VDDIO, 2 SCL/SCLK, 3 SDA/SDI, 4 AD0/SDO, 5 CS, 6 INT, 7 RESV, 8 FSYNC, 9 RESV, 10 RESV, 11 RESV, 12 RESV, 13 GND, 14 REGOUT, 15 RESV, 16 VDD

## IIC
designator P?
footprint HY2.00MM 4X1立式
footprint HY2.00MM 4X1
pins: 1 VCC, 2 GND, 3 SCL, 4 SDA

## IMP811
designator U?
复位芯片
footprint SOT143
pins: 1 GND, 2 ~{RST}, 3 Vcc, 4 ~{MR}

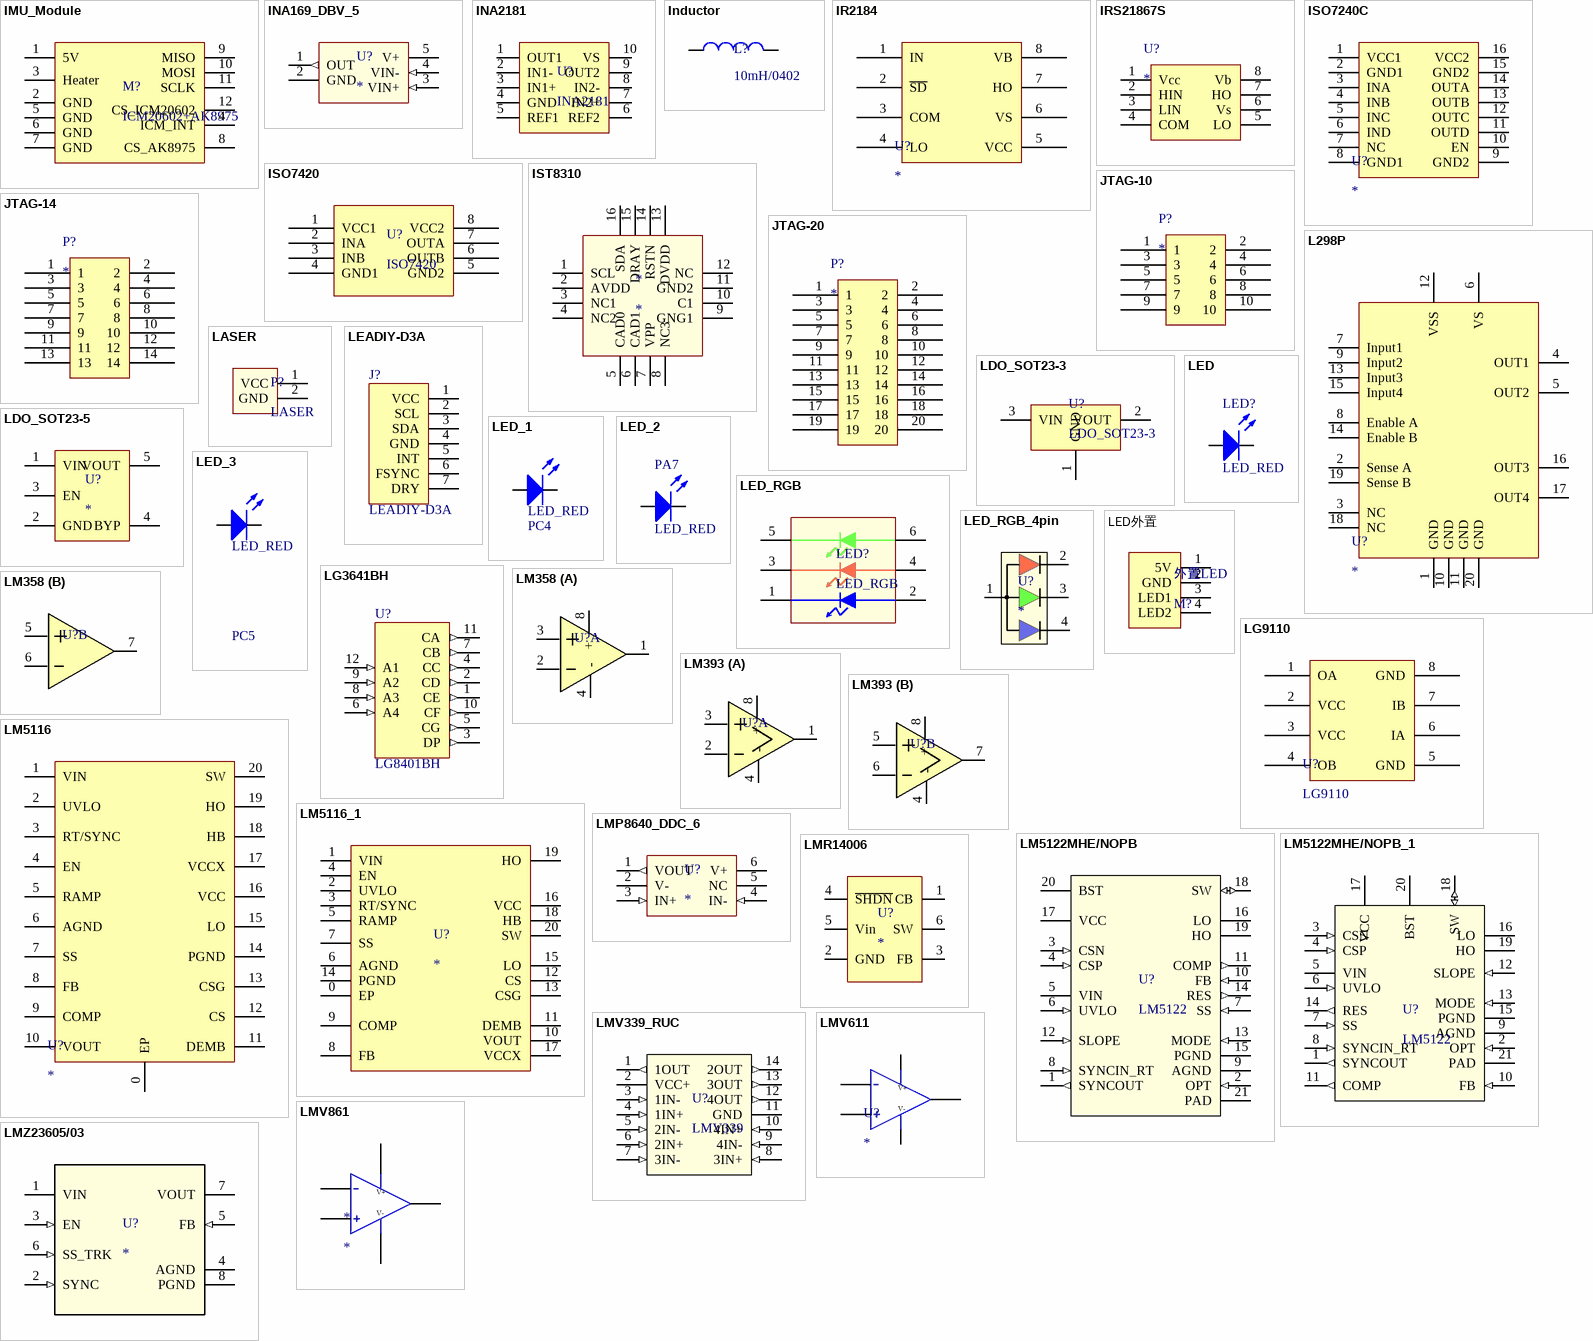
[diagram p5: symbols IMU_Module to LMZ23605/03]

## IMU_Module
designator M?, comment ICM20602+AK8975
六轴IMU - ICM20602+ 三轴磁力计-AK8975 + 恒温控制电路
footprint IMU_Module
pins: 1 5V, 2 GND, 3 Heater, 4 ICM_INT, 5 GND, 6 GND, 7 GND, 8 CS_AK8975, 9 MISO, 10 MOSI, 11 SCLK, 12 CS_ICM20602

## INA169_DBV_5
designator U?
Imported; Manufacturer: Texas Instruments; GENERIC_PART_NUMBER: INA169; Manufacturer_Part_Number: ina169_dbv_5; INDUSTRY_STD_PKG_TYPE: SOT-23; FAMILY_NAME: CURRENT SHUNT MONITOR; PIN_COUNT: 5; PACKAGE_DESIGNATOR: DBV; Datasheet_URL: http://www.ti.com/lit/gpn/INA169; Vendor: Texas Instruments; Value: Value; Type: Type; RefDes: RefDes
footprint DBV5
pins: 1 OUT (out), 2 GND (power), 3 VIN+ (in), 4 VIN- (in), 5 V+ (power)

## INA2181
designator U?
footprint VSSOP10
pins: 1 OUT1, 2 IN1-, 3 IN1+, 4 GND, 5 REF1, 6 REF2, 7 IN2+, 8 IN2-, 9 OUT2, 10 VS

## Inductor
designator L?, comment 10mH/0402
Inductor; Code_IEC: 1005; Value: 10mH; Published: 8-Jun-2000; LatestRevisionDate: 29-May-2009; LatestRevisionNote: IPC-7351 Footprint Added.; PackageReference: 0402-A; Publisher: Altium Limited; PackageDescription: Chip Inductor; Code_JEITA: 0402
footprint 0603 (Chip Resistor, 2-Leads, Body 1.6x0.8mm, IPC Medium Density)
simulation model INDUCTOR (Inductor)
signal-integrity model Inductor
footprint 0420L (一体成型贴片电感)
footprint 0630L (一体成型贴片电感)
footprint Power_Inductor (Precision Wire Wound Inductor, 2-Leads, Body 12.00x12.00mm, IPC Medium Density)
footprint INDP3030X10N (Precision Wire Wound Inductor, 2-Leads, Body 3.00x2.95mm, IPC Medium Density)
footprint 环形电感_27mm磁芯（卧式）
footprint 环形电感_46.7mm磁芯（卧式）
footprint 1770L (贴片一体成型功率电感 17.5mm*17.15mm*7mm)
footprint XAL1010
footprint XAL6060
footprint 2520L
footprint 0805L
pins: 1, 2

## IR2184
designator U?
footprint D8_NoThermal (SOIC, 8-Leads, Body 4.90x3.90mm, Pitch 1.27mm, IPC Medium Density)
pins: 1 IN, 2 ~{SD}, 3 COM, 4 LO, 5 VCC, 6 VS, 7 HO, 8 VB

## IRS21867S
designator U?
pins: 1 Vcc, 2 HIN, 3 LIN, 4 COM, 5 LO, 6 Vs, 7 HO, 8 Vb

## ISO7240C
designator U?
isolate
footprint SOIC16
pins: 1 VCC1, 2 GND1, 3 INA, 4 INB, 5 INC, 6 IND, 7 NC, 8 GND1, 9 GND2, 10 EN "Enable High or Open", 11 OUTD, 12 OUTC, 13 OUTB, 14 OUTA, 15 GND2, 16 VCC2

## ISO7420
designator U?
双通道数字隔离
footprint SOIC-8
pins: 1 VCC1, 2 INA, 3 INB, 4 GND1, 5 GND2, 6 OUTB, 7 OUTA, 8 VCC2

## IST8310
designator *
footprint LGA-16
footprint LGA16 (IST8310)
pins: 1 SCL, 2 AVDD, 3 NC1, 4 NC2, 5 CAD0, 6 CAD1, 7 VPP, 8 NC3, 9 GNG1, 10 C1, 11 GND2, 12 NC, 13 DVDD, 14 RSTN, 15 DRAY, 16 SDA

## JTAG-10
designator P?
footprint JTAG-2.54 10A
pins: 1, 2, 3, 4, 5, 6, 7, 8, 9, 10

## JTAG-14
designator P?
footprint JTAG-2.54 14A
pins: 1, 2, 3, 4, 5, 6, 7, 8, 9, 10, 11, 12, 13, 14

## JTAG-20
designator P?
footprint jtag-20
pins: 1, 2, 3, 4, 5, 6, 7, 8, 9, 10, 11, 12, 13, 14, 15, 16, 17, 18, 19, 20

## L298P
designator U?
footprint Powerso20 (SOIC, 20-Leads, Body 15.90x11.00mm, Pitch 1.27mm, Thermal Pad 16.00x6.20mm, IPC Medium Density)
pins: 1 GND, 2 Sense A, 3 NC, 4 OUT1, 5 OUT2, 6 VS, 7 Input1, 8 Enable A, 9 Input2, 10 GND, 11 GND, 12 VSS, 13 Input3, 14 Enable B, 15 Input4, 16 OUT3, 17 OUT4, 18 NC, 19 Sense B, 20 GND, 21 pad hidden to GND

## LASER
designator P?
footprint HY2.00MM 2X1_立式 (额定电流2A，额定电压250V)
footprint HY2.00MM 2X1 SMT
pins: 1 VCC, 2 GND

## LDO_SOT23-3
designator U?
footprint SOT-23-3
pins: 1 GND, 2 VOUT, 3 VIN

## LDO_SOT23-5
designator U?
footprint SOT-23-5 L
pins: 1 VIN, 2 GND, 3 EN, 4 BYP, 5 VOUT

## LEADIY-D3A
designator J?
MPU6050 HMC5883L BMP180/BMP085
footprint HDR1X7 (Connector; Header; 7 Position)
pins: 1 VCC, 2 SCL, 3 SDA, 4 GND, 5 INT, 6 FSYNC, 7 DRY

## LED
designator LED?, comment LED_RED
Typical RED, GREEN, YELLOW, AMBER GaAs LED; Published: 8-Jun-2000; LatestRevisionDate: 17-Jul-2002; LatestRevisionNote: Re-released for DXP Platform.; PackageVersion: Feb-2002; PackageReference: 3.2X1.6X1.1; Publisher: Altium Limited; PackageDescription: SM LED; 2 Flat Leads
simulation model LED2 (Diode)
footprint 0805LED
footprint 0603LED_R
footprint 0603LED_G
footprint 0603LED_B
footprint 3528LED
footprint 5MM_Emission
pins: 1, 2

## LED_1
designator PC4, comment LED_RED
Typical RED, GREEN, YELLOW, AMBER GaAs LED; Published: 8-Jun-2000; LatestRevisionDate: 17-Jul-2002; LatestRevisionNote: Re-released for DXP Platform.; PackageVersion: Feb-2002; PackageReference: 3.2X1.6X1.1; Publisher: Altium Limited; PackageDescription: SM LED; 2 Flat Leads
simulation model LED2 (Diode)
footprint 0805LED
footprint 0603LED_R
footprint 0603LED_G
footprint 0603LED_B
pins: 1, 2

## LED_2
designator PA7, comment LED_RED
Typical RED, GREEN, YELLOW, AMBER GaAs LED; Published: 8-Jun-2000; LatestRevisionDate: 17-Jul-2002; LatestRevisionNote: Re-released for DXP Platform.; PackageVersion: Feb-2002; PackageReference: 3.2X1.6X1.1; Publisher: Altium Limited; PackageDescription: SM LED; 2 Flat Leads
simulation model LED2 (Diode)
footprint 0805LED
footprint 0603LED_R
footprint 0603LED_G
footprint 0603LED_B
pins: 1, 2

## LED_3
designator PC5, comment LED_RED
Typical RED, GREEN, YELLOW, AMBER GaAs LED; Published: 8-Jun-2000; LatestRevisionDate: 17-Jul-2002; LatestRevisionNote: Re-released for DXP Platform.; PackageVersion: Feb-2002; PackageReference: 3.2X1.6X1.1; Publisher: Altium Limited; PackageDescription: SM LED; 2 Flat Leads
simulation model LED2 (Diode)
footprint 0805LED
footprint 0603LED_R
footprint 0603LED_G
footprint 0603LED_B
pins: 1, 2

## LED_RGB
designator LED?
footprint 5050_RGB (RGB)
pins: 1, 2, 3, 4, 5, 6

## LED_RGB_4pin
designator U?
footprint 0603 RGB
pins: 1 COM, 2 (oc), 3 (oc), 4 (oc)

## LED外置
designator 外置LED, comment M?
外置指示灯，双色
footprint A1.25AW-4P
footprint A1.25WF-4P
pins: 1 5V, 2 GND, 3 LED1, 4 LED2

## LG3641BH
designator U?, comment LG8401BH
四段 共阳 数码管
footprint LG3641 (四位 0.36英寸 数码管)
footprint LG8401BH (四位 0.36英寸 数码管)
pins: 1 CE (out), 2 CD (out), 3 DP (out), 4 CC (out), 5 CG (out), 6 A4 (in), 7 CB (out), 8 A3 (in), 9 A2 (in), 10 CF (out), 11 CA (out), 12 A1 (in)

## LG9110
designator U?
footprint D8_NoThermal (SOIC, 8-Leads, Body 4.90x3.90mm, Pitch 1.27mm, IPC Medium Density)
pins: 1 OA, 2 VCC, 3 VCC, 4 OB, 5 GND, 6 IA, 7 IB, 8 GND

## LM358
designator U?  (value not drawn)
footprint SOIC8 (SOIC, 8-Leads, Body 4.90x3.90mm, Pitch 1.27mm, IPC Medium Density)
part A pins: 1, 2 4, 3, 4 -, 8 +
part B pins: 5 3, 6 4, 7 1

## LM393
designator U?, comment LM339  (value not drawn)
footprint SOIC8 (SOIC, 8-Leads, Body 4.90x3.90mm, Pitch 1.27mm, IPC Medium Density)
part A pins: 1, 2 4, 3, 4 -, 8 +
part B pins: 4 -, 5 3, 6 4, 7 1, 8 +

## LM5116
designator U?
footprint HTSSOP-20
pins: 0 EP, 1 VIN, 2 UVLO, 3 RT/SYNC, 4 EN, 5 RAMP, 6 AGND, 7 SS, 8 FB, 9 COMP, 10 VOUT, 11 DEMB, 12 CS, 13 CSG, 14 PGND, 15 LO, 16 VCC, 17 VCCX, 18 HB, 19 HO, 20 SW

## LM5116_1
designator U?
footprint HTSSOP-20
pins: 0 EP, 1 VIN, 2 UVLO, 3 RT/SYNC, 4 EN, 5 RAMP, 6 AGND, 7 SS, 8 FB, 9 COMP, 10 VOUT, 11 DEMB, 12 CS, 13 CSG, 14 PGND, 15 LO, 16 VCC, 17 VCCX, 18 HB, 19 HO, 20 SW

## LM5122MHE/NOPB
designator U?, comment LM5122
Imported; PartNumber: LM5122MH/NOPB; Manufacturer: Texas Instruments; CompType: IC; PIN_COUNT: 21; Application_BuildNumber: *; PackageReference: PWP0020A; MountType: SMT; RoHS: Y; RefDes: RefDes; TYPE: TYPE; Value: Value
footprint PWP0020A_N
footprint HTSSOP20
pins: 1 SYNCOUT (out), 2 OPT (in), 3 CSN (in), 4 CSP (in), 5 VIN (power), 6 UVLO (in), 7 SS (in), 8 SYNCIN_RT (in), 9 AGND (power), 10 FB (in), 11 COMP (out), 12 SLOPE (in), 13 MODE (in), 14 RES (out), 15 PGND (power), 16 LO (power), 17 VCC (power), 18 SW (io), 19 HO (power), 20 BST (power), 21 PAD (power)

## LM5122MHE/NOPB_1
designator U?, comment LM5122
Imported; PartNumber: LM5122MH/NOPB; Manufacturer: Texas Instruments; CompType: IC; PIN_COUNT: 21; Application_BuildNumber: *; PackageReference: PWP0020A; MountType: SMT; RoHS: Y; RefDes: RefDes; TYPE: TYPE; Value: Value
footprint PWP0020A_N
footprint HTSSOP20
pins: 1 SYNCOUT (out), 2 OPT (in), 3 CSN (in), 4 CSP (in), 5 VIN (power), 6 UVLO (in), 7 SS (in), 8 SYNCIN_RT (in), 9 AGND (power), 10 FB (in), 11 COMP (out), 12 SLOPE (in), 13 MODE (in), 14 RES (out), 15 PGND (power), 16 LO (power), 17 VCC (power), 18 SW (io), 19 HO (power), 20 BST (power), 21 PAD (power)

## LMP8640_DDC_6
designator U?
Imported; Manufacturer: Texas Instruments; Manufacturer_Part_Number: lmp8640_ddc_6; basePN: LMP8640; NSC_PackageReference: MK06A; DatasheetURL: http://www.ti.com/lit/ds/symlink/lmp8640.pdf; Vendor: Texas Instruments; Value: Value; Type: Type; RefDes: RefDes
footprint MK06A
pins: 1 VOUT (out), 2 V- (power), 3 IN+ (in), 4 IN- (in), 5 NC, 6 V+ (power)

## LMR14006
designator U?
footprint SOT-23-6
pins: 1 CB (oc), 2 GND (oc), 3 FB (oc), 4 ~{SHDN} (oc), 5 Vin (oc), 6 SW (oc)

## LMV339_RUC
designator U?, comment LMV339
Imported; Manufacturer: Texas Instruments; Manufacturer_Part_Number: lmv339_ruc; INDUSTRY_STD_PKG_TYPE: QFN; FAMILY_NAME: COMPARATOR; PIN_COUNT: 14; PACKAGE_DESIGNATOR: RUC; Datasheet_URL: http://www.ti.com/lit/gpn/LMV339; GENERIC_PART_NUMBER: LMV339; Vendor: Texas Instruments; Value: Value; Type: Type; RefDes: RefDes
footprint RUC14
footprint RUC14
pins: 1 1OUT (out), 2 VCC+ (power), 3 1IN- (in), 4 1IN+ (in), 5 2IN- (in), 6 2IN+ (in), 7 3IN- (in), 8 3IN+ (in), 9 4IN- (in), 10 4IN+ (in), 11 GND (power), 12 4OUT (out), 13 3OUT (out), 14 2OUT (out)

## LMV611
designator U?
footprint SOT23-5
pins: 1 IN+, 2 V-, 3 IN-, 4 OUT, 5 V+

## LMV861
designator *
footprint sc70-5pin (SOT23, 5-Leads, Body 2.00x2.10mm, Pitch 0.65mm, IPC Medium Density)
pins: 1 IN+, 2 V-, 3 IN-, 4 OUT, 5 V+

## LMZ23605/03
designator U?
Imported; Manufacturer: Texas Instruments; PartNumber: LMZ23605TZX/NOPB; RefDes: RefDes; TYPE: TYPE; Value: Value
footprint NDW0007A
pins: 1 VIN (power), 2 SYNC (in), 3 EN (in), 4 AGND (power), 5 FB (in), 6 SS_TRK (in), 7 VOUT (power), 8 PGND (power)

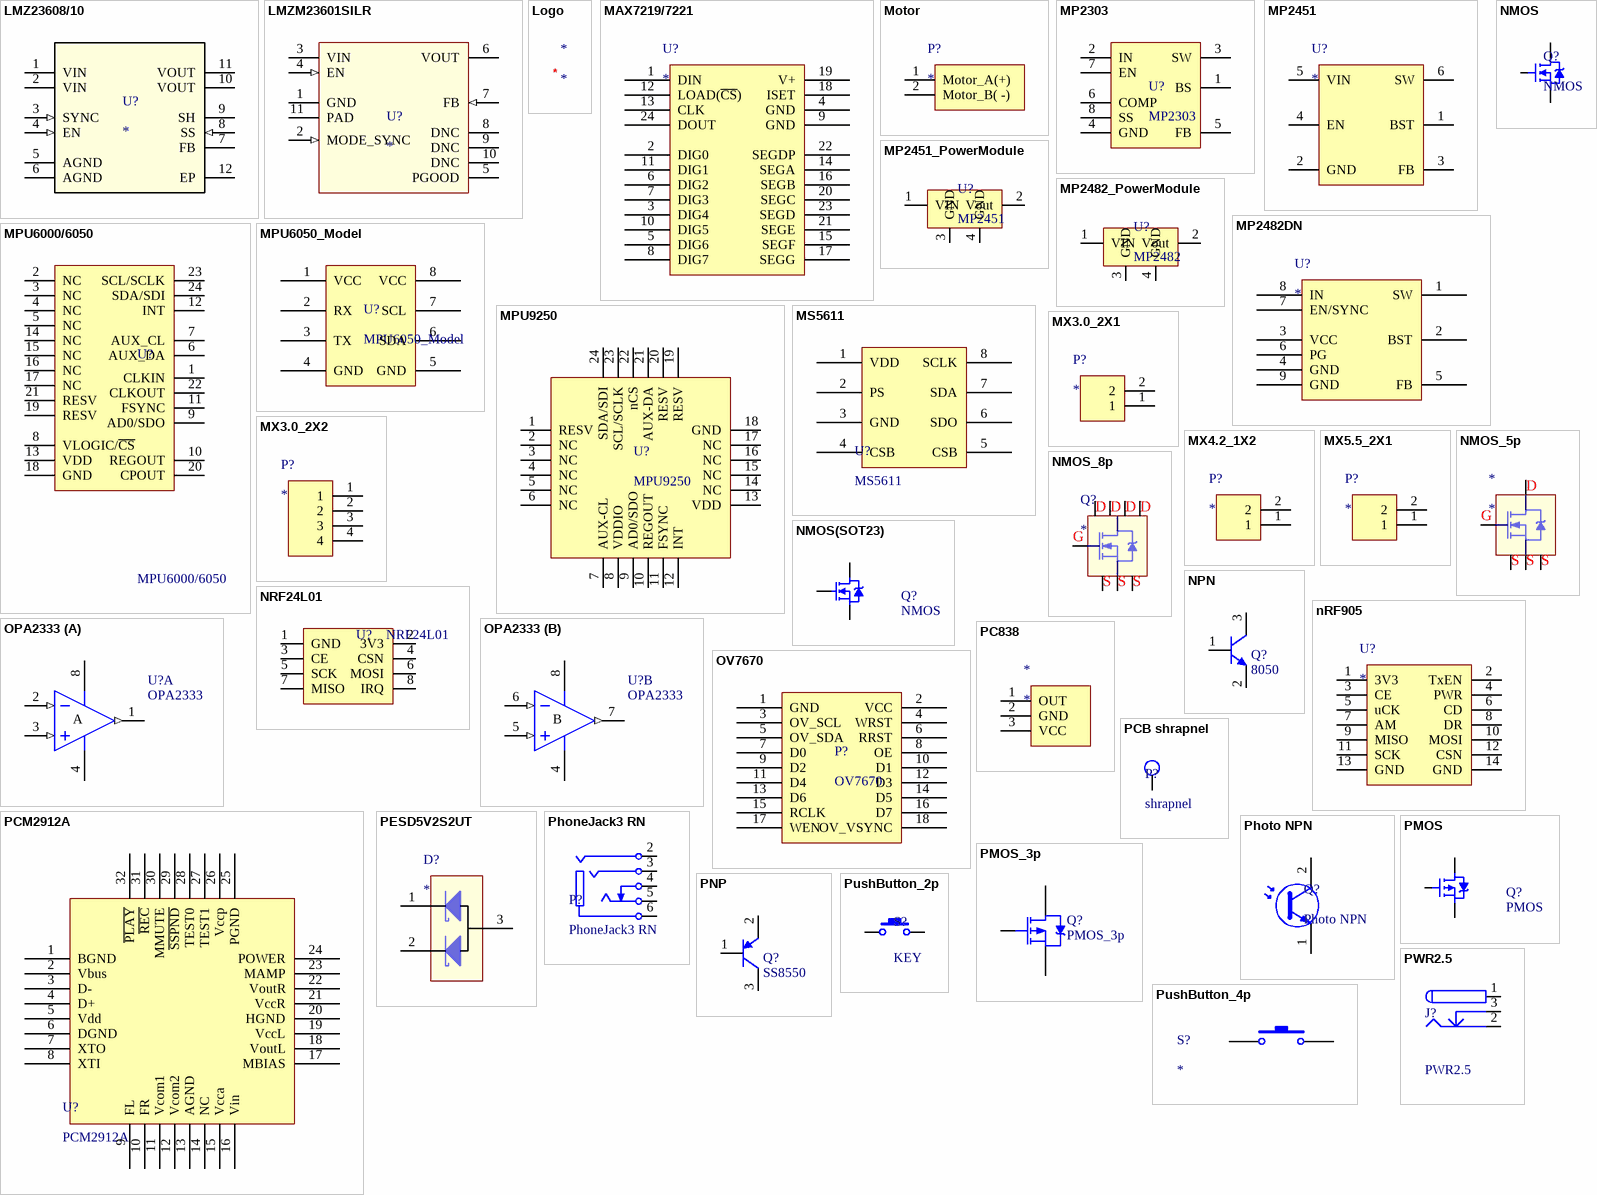
[diagram p6: symbols LMZ23608/10 to PWR2.5]

## LMZ23608/10
designator U?
support LMZ23610\ LMZ23608\ LMZ13610\ LMZ13608; Manufacturer: Texas Instruments; RefDes: RefDes; TYPE: TYPE; Value: Value
footprint NDY0011A_N
pins: 1 VIN (power), 2 VIN (power), 3 SYNC (in), 4 EN (in), 5 AGND (power), 6 AGND (power), 7 FB, 8 SS (in), 9 SH, 10 VOUT (power), 11 VOUT (power), 12 EP (power)

## LMZM23601SILR
designator U?
Imported; PartNumber: LMZM23601SILR; Manufacturer: Texas Instruments; RefDes: RefDes; TYPE: TYPE; Value: Value
footprint SIL0010A
pins: 1 GND (power), 2 MODE_SYNC (in), 3 VIN (power), 4 EN (in), 5 PGOOD (oc), 6 VOUT (power), 7 FB (in), 8 DNC, 9 DNC, 10 DNC, 11 PAD (power)

## Logo
designator *
footprint logo_langya - duplicate

## MAX7219/7221
designator U?
footprint SOIC-24(MAX7219) (SOIC, 24-Leads, Body 15.6x7.6mm (max), Pitch 1.27mm, IPC Medium Density)
pins: 1 DIN, 2 DIG0, 3 DIG4, 4 GND, 5 DIG6, 6 DIG2, 7 DIG3, 8 DIG7, 9 GND, 10 DIG5, 11 DIG1, 12 LOAD(~{CS}), 13 CLK, 14 SEGA, 15 SEGF, 16 SEGB, 17 SEGG, 18 ISET, 19 V+, 20 SEGC, 21 SEGE, 22 SEGDP, 23 SEGD, 24 DOUT

## Motor
designator P?
footprint PCON2_5.0_D
footprint XT30PW-Female (XT30卧式母头插座)
pins: 1 Motor_A(+), 2 Motor_B( -)

## MP2303
designator U?
footprint SOIC8E (SOIC, 8-Leads, Body 4.90x3.90mm, Pitch 1.27mm, Thermal Pad 3.45.2x2.00.2mm, IPC Medium Density)
pins: 1 BS, 2 IN, 3 SW, 4 GND, 5 FB, 6 COMP, 7 EN, 8 SS

## MP2451
designator U?
开关电源0.6A
footprint SOT23-6L (SOT23, 6-Leads, Body 2.90x2.80mm, Pitch 0.95mm, IPC Medium Density)
pins: 1 BST, 2 GND, 3 FB, 4 EN, 5 VIN, 6 SW

## MP2451_PowerModule
designator U?, comment MP2451
footprint MP2451_PowerModule
footprint MP2451_PowerModule_V2
pins: 1 VIN, 2 Vout, 3 GND, 4 GND

## MP2482_PowerModule
designator U?, comment MP2482
footprint MP2482_PowerModule
pins: 1 VIN, 2 Vout, 3 GND, 4 GND

## MP2482DN
designator U?
开关电源5A
footprint SOIC8E (SOIC, 8-Leads, Body 4.90x3.90mm, Pitch 1.27mm, Thermal Pad 3.45.2x2.00.2mm, IPC Medium Density)
pins: 1 SW, 2 BST, 3 VCC, 4 GND, 5 FB, 6 PG, 7 EN/SYNC, 8 IN, 9 GND

## MPU6000/6050
designator U?
6轴运动处理传感器
footprint QFN50P400X400X110-24M (QFN, 24-Leads, Body 4.1x4.1mm (max), Pitch 0.50mm, IPC Low Density)
footprint QFN24M (QFN, 24-Leads, Body 4.1x4.1mm (max), Pitch 0.50mm, IPC Low Density)
pins: 1 CLKIN, 2 NC, 3 NC, 4 NC, 5 NC, 6 AUX_DA, 7 AUX_CL, 8 VLOGIC/~{CS}, 9 AD0/SDO, 10 REGOUT, 11 FSYNC, 12 INT, 13 VDD, 14 NC, 15 NC, 16 NC, 17 NC, 18 GND, 19 RESV, 20 CPOUT, 21 RESV, 22 CLKOUT, 23 SCL/SCLK, 24 SDA/SDI

## MPU6050_Model
designator U?
footprint MPU6050_Model
pins: 1 VCC, 2 RX, 3 TX, 4 GND, 5 GND, 6 SDA, 7 SCL, 8 VCC

## MPU9250
designator U?
9轴运动处理传感器
footprint QFN24 3x3 (QFN, 24-Leads, Body 3x3mm (max), Pitch 1.0mm, IPC Low Density)
pins: 1 RESV, 2 NC, 3 NC, 4 NC, 5 NC, 6 NC, 7 AUX-CL, 8 VDDIO, 9 AD0/SDO, 10 REGOUT, 11 FSYNC, 12 INT, 13 VDD, 14 NC, 15 NC, 16 NC, 17 NC, 18 GND, 19 RESV, 20 RESV, 21 AUX-DA, 22 nCS, 23 SCL/SCLK, 24 SDA/SDI

## MS5611
designator U?
气压计
footprint MS5611-01BA03 (气压计MS5611封装)
pins: 1 VDD, 2 PS, 3 GND, 4 CSB, 5 CSB, 6 SDO, 7 SDA, 8 SCLK

## MX3.0_2X1
designator P?
footprint PCON2_3.81-2Z
footprint MX3.0MM 2X1AW
pins: 1, 2

## MX3.0_2X2
designator P?
footprint MX3.0mm 2X2AW (molex 43025 3.0mm间距弯针(90°))
pins: 1, 2, 3, 4

## MX4.2_1X2
designator P?
footprint MX4.2MM_1X2AW (4.2mm间距)
pins: 1, 2

## MX5.5_2X1
designator P?
footprint MX5.5mm 2X1AW (molex 5569 5.5mm间距弯针(90°))
pins: 1, 2

## NMOS
designator Q?
SON 5x6
footprint TO-252  mos管 (D-PAK, 4-Leads, Body 6.1x6.5mm, Pitch 2.28mm, Lead Span 9.8mm, IPC Low Density)
footprint SON5x6 (5x6mm MOS)
footprint SON3x3
pins: 1 S, 2 S, 3 S, 4 G, 5 D, 6 D, 7 D, 8 D, 9 D

## NMOS(SOT23)
designator Q?, comment NMOS
N-Channel Power MOSFET; Note: Pin 2 is electrically connected to pin 4.; Published: 8-Jun-2000; LatestRevisionDate: 17-Jul-2002; LatestRevisionNote: Re-released for DXP Platform.; DatasheetVersion: PD-9.814; PackageVersion: Feb-1997; PackageReference: TO-220AB; Publisher: Altium Limited; PackageDescription: TO, Thru-Hole, Vertical, Heatsink Mounted; 3 In-Line Leads; Pitch 2.54 mm; ComponentLink1Description: Manufacturer Link; ComponentLink1URL: http://www.irf.com/
footprint SOT-23-3
footprint TO-263-3; pin to pad 2>3 3>2
pins: 1 G, 2 S, 3 D

## NMOS_5p
designator *
footprint SOT669
pins: 1 S, 2 S, 3 S, 4 G, 5 D

## NMOS_8p
designator Q?
footprint TDSON-8
pins: 1 S, 2 S, 3 S, 4 G, 5 D, 6 D, 7 D, 8 D

## NPN
designator Q?, comment 8050
NPN Bipolar Transistor; Published: 8-Jun-2000; LatestRevisionDate: 17-Jul-2002; LatestRevisionNote: Re-released for DXP Platform.; PackageReference: TO-226-AA; Publisher: Altium Limited; PackageDescription: TO, Flat Index; 3 In-Line, Axial Leads; Body Dia. 4.8mm; Leads 0.55 x 0.51 mm (max); Code_JEDEC: TO-226-AA
simulation model NPN
signal-integrity model NPN
footprint SOT-23-3
footprint SOT-323
pins: 1 B, 2 E, 3 C

## NRF24L01
designator U?
footprint NRF24L01
pins: 1 GND, 2 3V3, 3 CE, 4 CSN, 5 SCK, 6 MOSI, 7 MISO, 8 IRQ

## nRF905
designator U?
footprint nRF905 (433/868/915MHz)
pins: 1 3V3, 2 TxEN, 3 CE, 4 PWR, 5 uCK, 6 CD, 7 AM, 8 DR, 9 MISO, 10 MOSI, 11 SCK, 12 CSN, 13 GND, 14 GND

## OPA2333
designator U?
Dual Operational Amplifier; Published: 16-Jan-2001; LatestRevisionDate: 13-Apr-2006; LatestRevisionNote: IPC-7351 Footprint Added.; DatasheetVersion: Aug-1994; PackageVersion: Jan-1998; PackageReference: D008; Publisher: Altium Limited; PackageDescription: 8-Pin Small Outline Integrated Circuit 1.27 mm Pitch; Code_IPC: SOIC127P600-8; ComponentLink1Description: Manufacturer Link; ComponentLink1URL: http://www.ti.com/; ComponentLink2Description: Datasheet; ComponentLink2URL: http://www-s.ti.com/sc/ds/lf353.pdf
footprint SOIC-8
footprint SOIC-8
pins on every part: 4 V- (power), 8 V+ (power)
part A pins: 1 OUT (out), 2 IN- (in), 3 IN+ (in)
part B pins: 5 IN+ (in), 6 IN- (in), 7 OUT (out)
part A text: A
part B text: B

## OV7670
designator P?
摄像头OV7670带FIFO
footprint FPC 0.5mm 18PIN (0.5mmFPC插座 18pin)
pins: 1 GND, 2 VCC, 3 OV_SCL, 4 WRST, 5 OV_SDA, 6 RRST, 7 D0, 8 OE, 9 D2, 10 D1, 11 D4, 12 D3, 13 D6, 14 D5, 15 RCLK, 16 D7, 17 WEN, 18 OV_VSYNC

## PC838
designator *
红外一体接收器38K
footprint 1838 (红外接收管)
pins: 1 OUT, 2 GND, 3 VCC

## PCB shrapnel
designator P?, comment shrapnel
PCB滑环弹片
footprint 滑环弹片E-A00
footprint 滑环弹片E-A20
pins: 1 Shrapnel (oc)

## PCM2912A
designator U?
footprint TQFP-32N (TQFP, 32-Leads, Body 7.00x7.00mm, Pitch 0.80mm, IPC Medium Density)
pins: 1 BGND, 2 Vbus, 3 D-, 4 D+, 5 Vdd, 6 DGND, 7 XTO, 8 XTI, 9 FL, 10 FR, 11 Vcom1, 12 Vcom2, 13 AGND, 14 NC, 15 Vcca, 16 Vin, 17 MBIAS, 18 VoutL, 19 VccL, 20 HGND, 21 VccR, 22 VoutR, 23 MAMP, 24 POWER, 25 PGND, 26 Vccp, 27 TEST1, 28 TEST0, 29 ~{SSPND}, 30 MMUTE, 31 ~{REC}, 32 ~{PLAY}